# Altium integrated library Actel ACT 3.IntLib: 322 symbols (part 17 of 21)
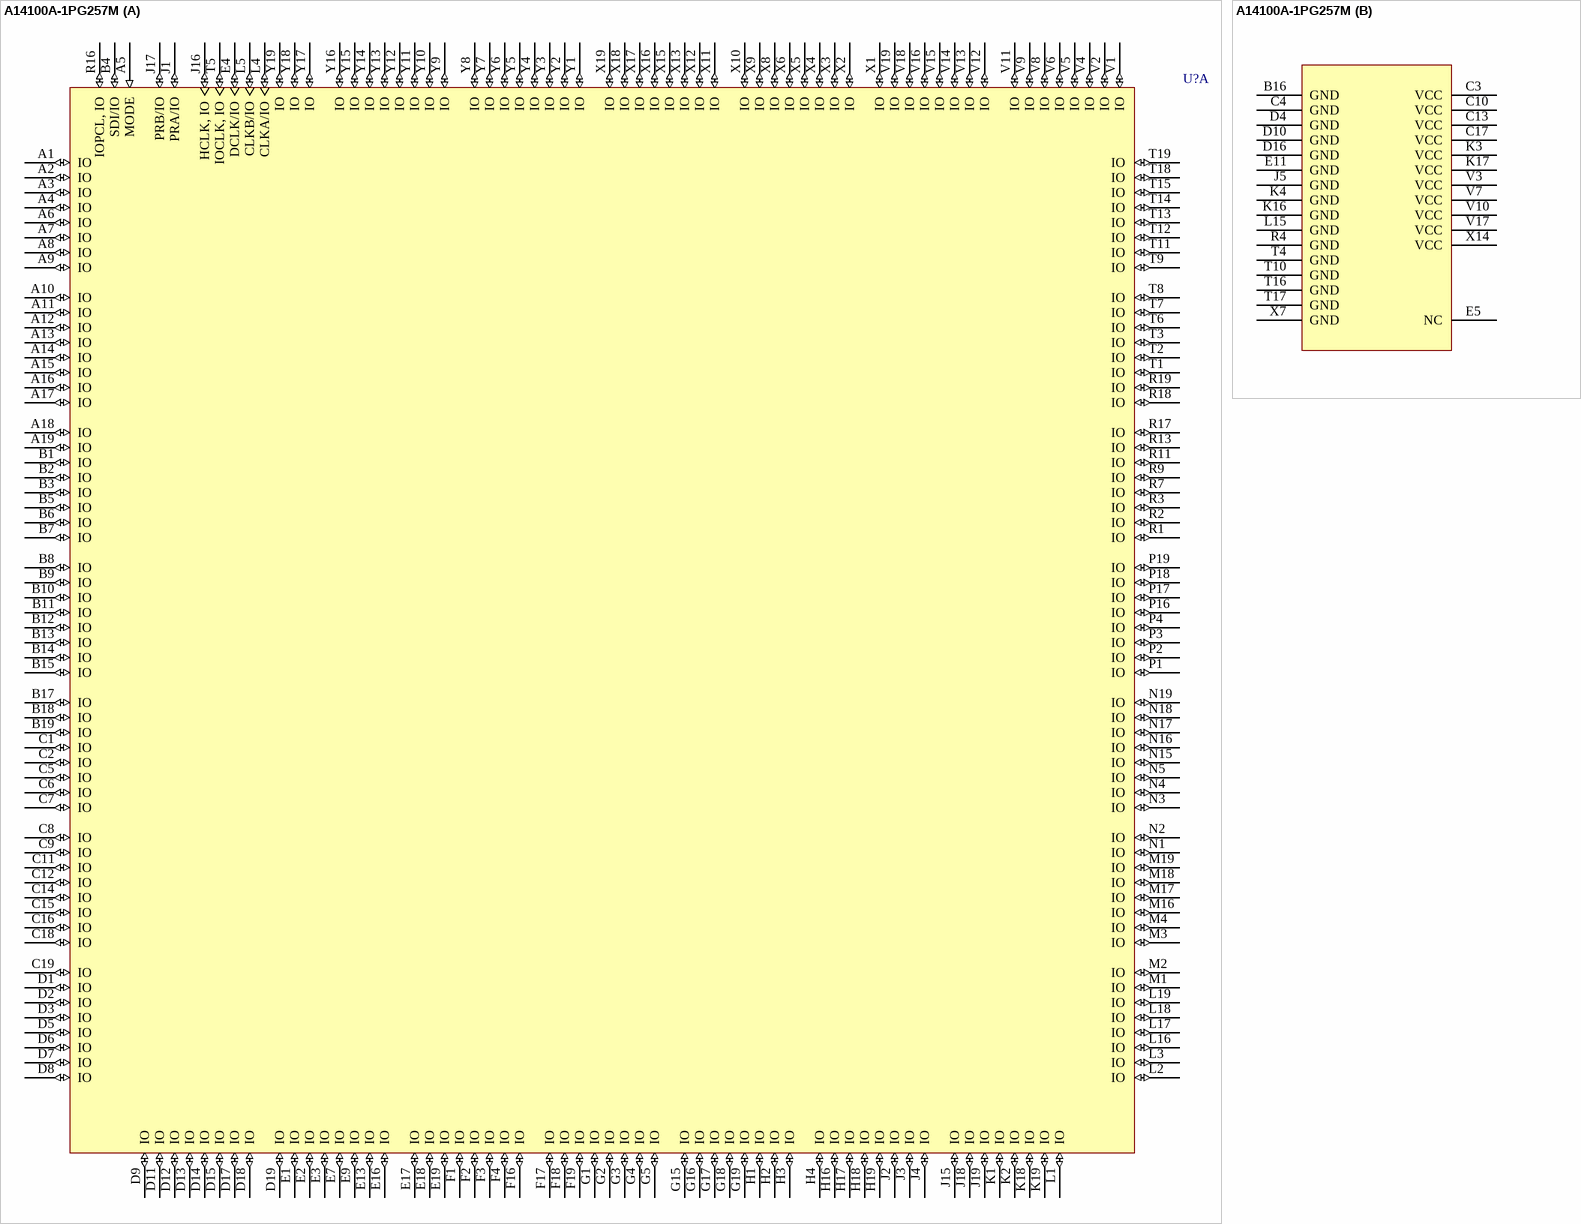
[diagram p232: symbol A14100A-1PG257M]

## A14100A-1PG257M
designator U?
ACT 3 Series 5V FPGA, 228 User I/Os, 257 pin CPGA, Speed Grade 1, Military Grade; Published: 24-Nov-2000; LatestRevisionDate: 04-Mar-2005; LatestRevisionNote: Stylized 3D Model Added.; DatasheetVersion: Sep-1997; PackageVersion: ver11.2, Nov-2009; PackageReference: PG257; Publisher: Altium Limited; PackageDescription: 257-Pin Ceramic Pin Grid Array (PG257); ComponentLink1Description: ACT3 Datasheet; ComponentLink1URL: http://www.actel.com/documents/ACT3_DS.pdf; ComponentLink2Description: Package Mechanical Drawings; ComponentLink2URL: http://www.actel.com/documents/PckgMechDrwngs.pdf; ComponentLink3Description: Legacy FPGA Documents; ComponentLink3URL: http://www.actel.com/techdocs/ds/legacy.aspx
footprint PG257 (PGA, 257-Leads, Body 50x50mm, Pitch 2.54mm)
part A pins: A1 IO (io), A2 IO (io), A3 IO (io), A4 IO (io), A5 MODE (in), A6 IO (io), A7 IO (io), A8 IO (io), A9 IO (io), A10 IO (io), A11 IO (io), A12 IO (io), A13 IO (io), A14 IO (io), A15 IO (io), A16 IO (io), A17 IO (io), A18 IO (io), A19 IO (io), B1 IO (io), B2 IO (io), B3 IO (io), B4 SDI/IO (io), B5 IO (io), B6 IO (io), B7 IO (io), B8 IO (io), B9 IO (io), B10 IO (io), B11 IO (io), B12 IO (io), B13 IO (io), B14 IO (io), B15 IO (io), B17 IO (io), B18 IO (io), B19 IO (io), C1 IO (io), C2 IO (io), C5 IO (io), C6 IO (io), C7 IO (io), C8 IO (io), C9 IO (io), C11 IO (io), C12 IO (io), C14 IO (io), C15 IO (io), C16 IO (io), C18 IO (io), C19 IO (io), D1 IO (io), D2 IO (io), D3 IO (io), D5 IO (io), D6 IO (io), D7 IO (io), D8 IO (io), D9 IO (io), D11 IO (io), D12 IO (io), D13 IO (io), D14 IO (io), D15 IO (io), D17 IO (io), D18 IO (io), D19 IO (io), E1 IO (io), E2 IO (io), E3 IO (io), E4 DCLK/IO (io), E7 IO (io), E9 IO (io), E13 IO (io), E16 IO (io), E17 IO (io), E18 IO (io), E19 IO (io), F1 IO (io), F2 IO (io), F3 IO (io), F4 IO (io), F16 IO (io), F17 IO (io), F18 IO (io), F19 IO (io), G1 IO (io), G2 IO (io), G3 IO (io), G4 IO (io), G5 IO (io), G15 IO (io), G16 IO (io), G17 IO (io), G18 IO (io), G19 IO (io), H1 IO (io), H2 IO (io), H3 IO (io), H4 IO (io), H16 IO (io), H17 IO (io), H18 IO (io), H19 IO (io), J1 PRA/IO (io), J2 IO (io), J3 IO (io), J4 IO (io), J15 IO (io), J16 HCLK, IO (io), J17 PRB/IO (io), J18 IO (io), J19 IO (io), K1 IO (io), K2 IO (io), K18 IO (io), K19 IO (io), L1 IO (io), L2 IO (io), L3 IO (io), L4 CLKA/IO (io), L5 CLKB/IO (io), L16 IO (io), L17 IO (io), L18 IO (io), L19 IO (io), M1 IO (io), M2 IO (io), M3 IO (io), M4 IO (io), M16 IO (io), M17 IO (io), M18 IO (io), M19 IO (io), N1 IO (io), N2 IO (io), N3 IO (io), N4 IO (io), N5 IO (io), N15 IO (io), N16 IO (io), N17 IO (io), N18 IO (io), N19 IO (io), P1 IO (io), P2 IO (io), P3 IO (io), P4 IO (io), P16 IO (io), P17 IO (io), P18 IO (io), P19 IO (io), R1 IO (io), R2 IO (io), R3 IO (io), R7 IO (io), R9 IO (io), R11 IO (io), R13 IO (io), R16 IOPCL, IO (io), R17 IO (io), R18 IO (io), R19 IO (io), T1 IO (io), T2 IO (io), T3 IO (io), T5 IOCLK, IO (io), T6 IO (io), T7 IO (io), T8 IO (io), T9 IO (io), T11 IO (io), T12 IO (io), T13 IO (io), T14 IO (io), T15 IO (io), T18 IO (io), T19 IO (io), V1 IO (io), V2 IO (io), V4 IO (io), V5 IO (io), V6 IO (io), V8 IO (io), V9 IO (io), V11 IO (io), V12 IO (io), V13 IO (io), V14 IO (io), V15 IO (io), V16 IO (io), V18 IO (io), V19 IO (io), X1 IO (io), X2 IO (io), X3 IO (io), X4 IO (io), X5 IO (io), X6 IO (io), X8 IO (io), X9 IO (io), X10 IO (io), X11 IO (io), X12 IO (io), X13 IO (io), X15 IO (io), X16 IO (io), X17 IO (io), X18 IO (io), X19 IO (io), Y1 IO (io), Y2 IO (io), Y3 IO (io), Y4 IO (io), Y5 IO (io), Y6 IO (io), Y7 IO (io), Y8 IO (io), Y9 IO (io), Y10 IO (io), Y11 IO (io), Y12 IO (io), Y13 IO (io), Y14 IO (io), Y15 IO (io), Y16 IO (io), Y17 IO (io), Y18 IO (io), Y19 IO (io)
part B pins: B16 GND (power), C3 VCC (power), C4 GND (power), C10 VCC (power), C13 VCC (power), C17 VCC (power), D4 GND (power), D10 GND (power), D16 GND (power), E5 NC, E11 GND (power), J5 GND (power), K3 VCC (power), K4 GND (power), K16 GND (power), K17 VCC (power), L15 GND (power), R4 GND (power), T4 GND (power), T10 GND (power), T16 GND (power), T17 GND (power), V3 VCC (power), V7 VCC (power), V10 VCC (power), V17 VCC (power), X7 GND (power), X14 VCC (power)

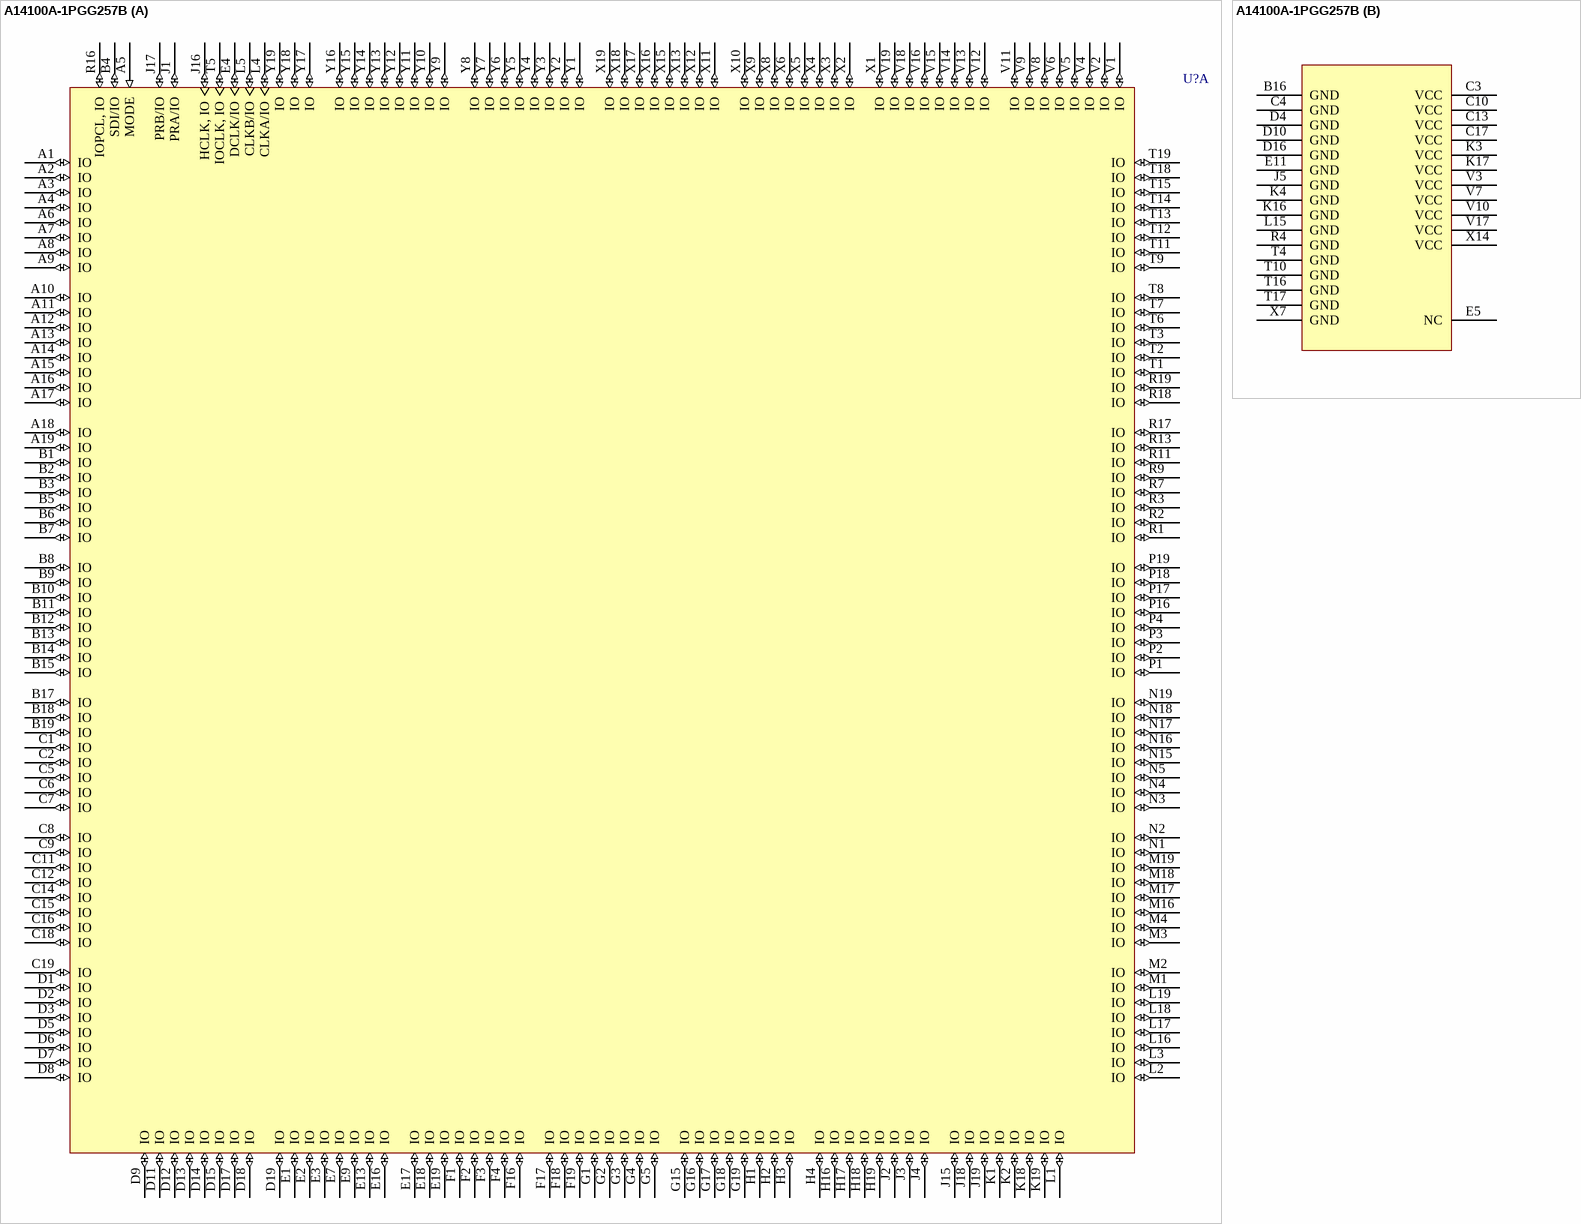
[diagram p160: symbol A14100A-1PGG257B]

## A14100A-1PGG257B
designator U?
ACT 3 Series 5V FPGA, 228 User I/Os, 257 pin CPGA, Speed Grade 1, MIL-STD-883, Pb-Free; Published: 11-Dec-2009; DatasheetVersion: Sep-1997; PackageVersion: ver11.2, Nov-2009; PackageReference: PG257; Publisher: Altium Limited; PackageDescription: 257-Pin Ceramic Pin Grid Array (PG257); ComponentLink1Description: ACT3 Datasheet; ComponentLink1URL: http://www.actel.com/documents/ACT3_DS.pdf; ComponentLink2Description: Package Mechanical Drawings; ComponentLink2URL: http://www.actel.com/documents/PckgMechDrwngs.pdf; ComponentLink3Description: Legacy FPGA Documents; ComponentLink3URL: http://www.actel.com/techdocs/ds/legacy.aspx
footprint PG257 (PGA, 257-Leads, Body 50x50mm, Pitch 2.54mm)
part A pins: A1 IO (io), A2 IO (io), A3 IO (io), A4 IO (io), A5 MODE (in), A6 IO (io), A7 IO (io), A8 IO (io), A9 IO (io), A10 IO (io), A11 IO (io), A12 IO (io), A13 IO (io), A14 IO (io), A15 IO (io), A16 IO (io), A17 IO (io), A18 IO (io), A19 IO (io), B1 IO (io), B2 IO (io), B3 IO (io), B4 SDI/IO (io), B5 IO (io), B6 IO (io), B7 IO (io), B8 IO (io), B9 IO (io), B10 IO (io), B11 IO (io), B12 IO (io), B13 IO (io), B14 IO (io), B15 IO (io), B17 IO (io), B18 IO (io), B19 IO (io), C1 IO (io), C2 IO (io), C5 IO (io), C6 IO (io), C7 IO (io), C8 IO (io), C9 IO (io), C11 IO (io), C12 IO (io), C14 IO (io), C15 IO (io), C16 IO (io), C18 IO (io), C19 IO (io), D1 IO (io), D2 IO (io), D3 IO (io), D5 IO (io), D6 IO (io), D7 IO (io), D8 IO (io), D9 IO (io), D11 IO (io), D12 IO (io), D13 IO (io), D14 IO (io), D15 IO (io), D17 IO (io), D18 IO (io), D19 IO (io), E1 IO (io), E2 IO (io), E3 IO (io), E4 DCLK/IO (io), E7 IO (io), E9 IO (io), E13 IO (io), E16 IO (io), E17 IO (io), E18 IO (io), E19 IO (io), F1 IO (io), F2 IO (io), F3 IO (io), F4 IO (io), F16 IO (io), F17 IO (io), F18 IO (io), F19 IO (io), G1 IO (io), G2 IO (io), G3 IO (io), G4 IO (io), G5 IO (io), G15 IO (io), G16 IO (io), G17 IO (io), G18 IO (io), G19 IO (io), H1 IO (io), H2 IO (io), H3 IO (io), H4 IO (io), H16 IO (io), H17 IO (io), H18 IO (io), H19 IO (io), J1 PRA/IO (io), J2 IO (io), J3 IO (io), J4 IO (io), J15 IO (io), J16 HCLK, IO (io), J17 PRB/IO (io), J18 IO (io), J19 IO (io), K1 IO (io), K2 IO (io), K18 IO (io), K19 IO (io), L1 IO (io), L2 IO (io), L3 IO (io), L4 CLKA/IO (io), L5 CLKB/IO (io), L16 IO (io), L17 IO (io), L18 IO (io), L19 IO (io), M1 IO (io), M2 IO (io), M3 IO (io), M4 IO (io), M16 IO (io), M17 IO (io), M18 IO (io), M19 IO (io), N1 IO (io), N2 IO (io), N3 IO (io), N4 IO (io), N5 IO (io), N15 IO (io), N16 IO (io), N17 IO (io), N18 IO (io), N19 IO (io), P1 IO (io), P2 IO (io), P3 IO (io), P4 IO (io), P16 IO (io), P17 IO (io), P18 IO (io), P19 IO (io), R1 IO (io), R2 IO (io), R3 IO (io), R7 IO (io), R9 IO (io), R11 IO (io), R13 IO (io), R16 IOPCL, IO (io), R17 IO (io), R18 IO (io), R19 IO (io), T1 IO (io), T2 IO (io), T3 IO (io), T5 IOCLK, IO (io), T6 IO (io), T7 IO (io), T8 IO (io), T9 IO (io), T11 IO (io), T12 IO (io), T13 IO (io), T14 IO (io), T15 IO (io), T18 IO (io), T19 IO (io), V1 IO (io), V2 IO (io), V4 IO (io), V5 IO (io), V6 IO (io), V8 IO (io), V9 IO (io), V11 IO (io), V12 IO (io), V13 IO (io), V14 IO (io), V15 IO (io), V16 IO (io), V18 IO (io), V19 IO (io), X1 IO (io), X2 IO (io), X3 IO (io), X4 IO (io), X5 IO (io), X6 IO (io), X8 IO (io), X9 IO (io), X10 IO (io), X11 IO (io), X12 IO (io), X13 IO (io), X15 IO (io), X16 IO (io), X17 IO (io), X18 IO (io), X19 IO (io), Y1 IO (io), Y2 IO (io), Y3 IO (io), Y4 IO (io), Y5 IO (io), Y6 IO (io), Y7 IO (io), Y8 IO (io), Y9 IO (io), Y10 IO (io), Y11 IO (io), Y12 IO (io), Y13 IO (io), Y14 IO (io), Y15 IO (io), Y16 IO (io), Y17 IO (io), Y18 IO (io), Y19 IO (io)
part B pins: B16 GND (power), C3 VCC (power), C4 GND (power), C10 VCC (power), C13 VCC (power), C17 VCC (power), D4 GND (power), D10 GND (power), D16 GND (power), E5 NC, E11 GND (power), J5 GND (power), K3 VCC (power), K4 GND (power), K16 GND (power), K17 VCC (power), L15 GND (power), R4 GND (power), T4 GND (power), T10 GND (power), T16 GND (power), T17 GND (power), V3 VCC (power), V7 VCC (power), V10 VCC (power), V17 VCC (power), X7 GND (power), X14 VCC (power)

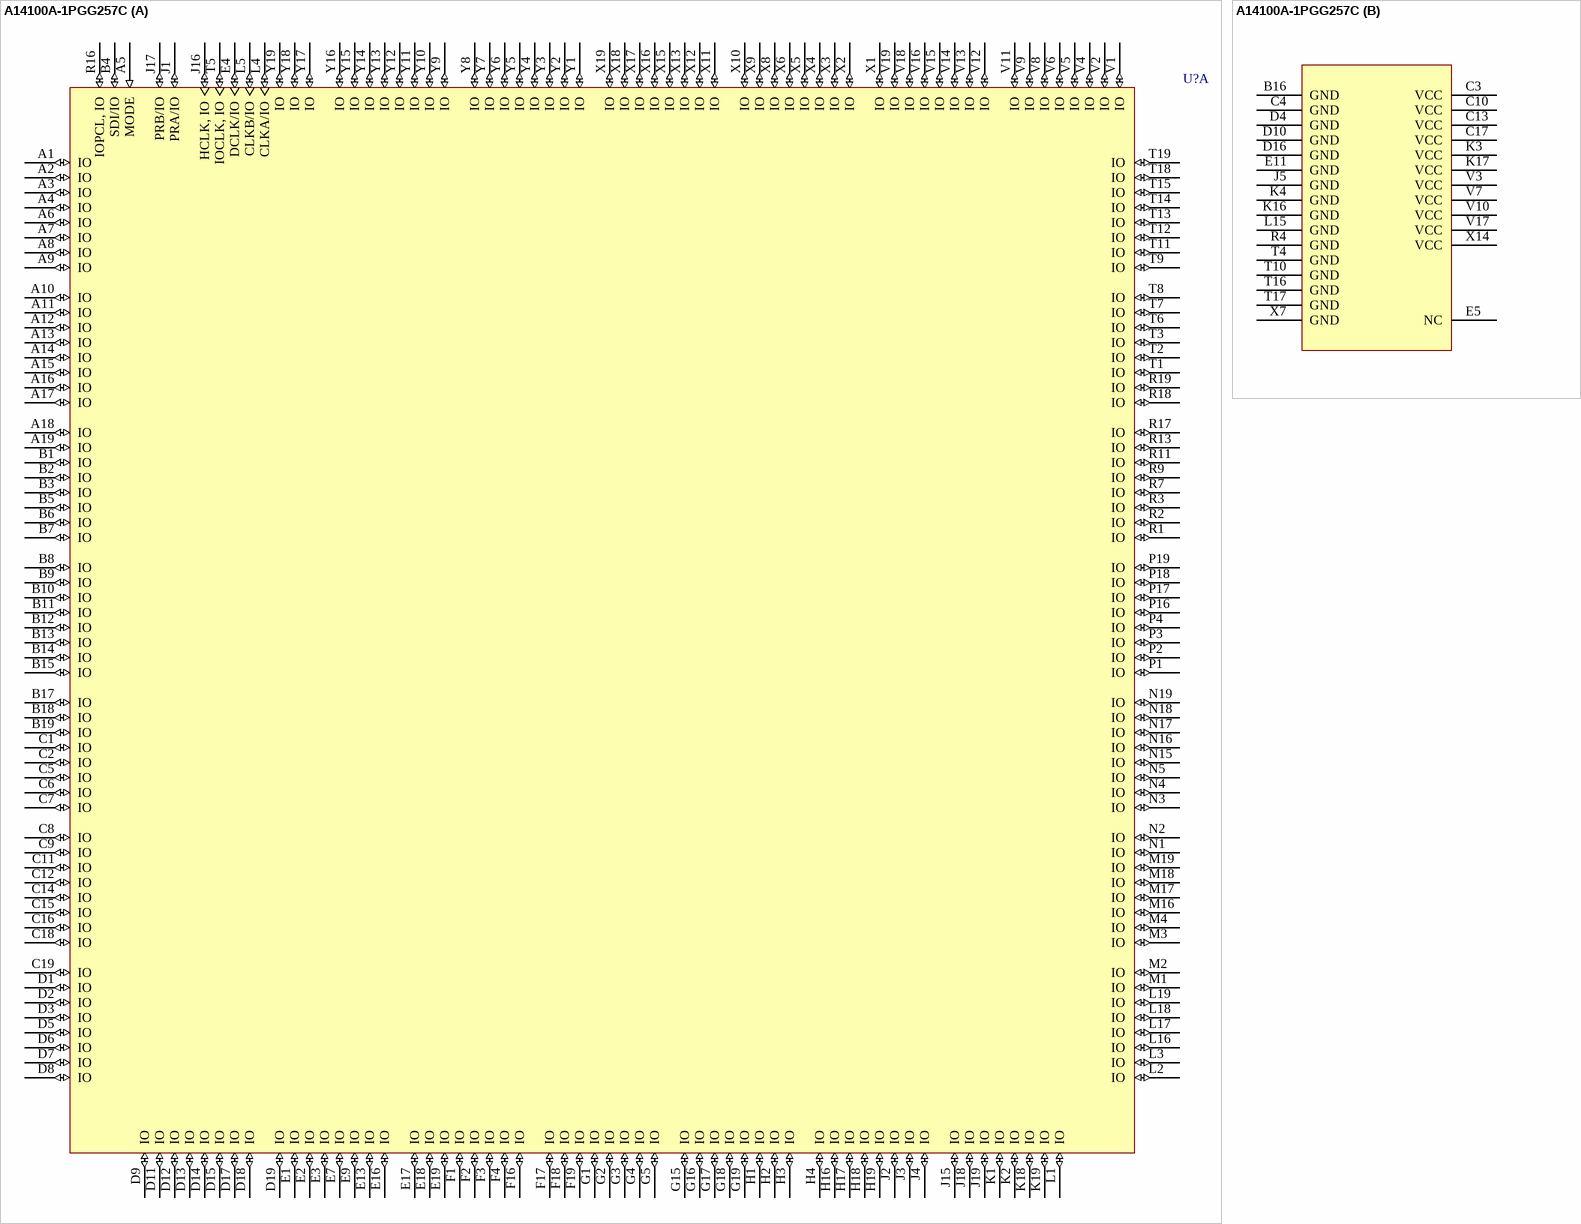
[diagram p161: symbol A14100A-1PGG257C]

## A14100A-1PGG257C
designator U?
ACT 3 Series 5V FPGA, 228 User I/Os, 257 pin CPGA, Speed Grade 1, Commercial Grade, Pb-Free; Published: 11-Dec-2009; DatasheetVersion: Sep-1997; PackageVersion: ver11.2, Nov-2009; PackageReference: PG257; Publisher: Altium Limited; PackageDescription: 257-Pin Ceramic Pin Grid Array (PG257); ComponentLink1Description: ACT3 Datasheet; ComponentLink1URL: http://www.actel.com/documents/ACT3_DS.pdf; ComponentLink2Description: Package Mechanical Drawings; ComponentLink2URL: http://www.actel.com/documents/PckgMechDrwngs.pdf; ComponentLink3Description: Legacy FPGA Documents; ComponentLink3URL: http://www.actel.com/techdocs/ds/legacy.aspx
footprint PG257 (PGA, 257-Leads, Body 50x50mm, Pitch 2.54mm)
part A pins: A1 IO (io), A2 IO (io), A3 IO (io), A4 IO (io), A5 MODE (in), A6 IO (io), A7 IO (io), A8 IO (io), A9 IO (io), A10 IO (io), A11 IO (io), A12 IO (io), A13 IO (io), A14 IO (io), A15 IO (io), A16 IO (io), A17 IO (io), A18 IO (io), A19 IO (io), B1 IO (io), B2 IO (io), B3 IO (io), B4 SDI/IO (io), B5 IO (io), B6 IO (io), B7 IO (io), B8 IO (io), B9 IO (io), B10 IO (io), B11 IO (io), B12 IO (io), B13 IO (io), B14 IO (io), B15 IO (io), B17 IO (io), B18 IO (io), B19 IO (io), C1 IO (io), C2 IO (io), C5 IO (io), C6 IO (io), C7 IO (io), C8 IO (io), C9 IO (io), C11 IO (io), C12 IO (io), C14 IO (io), C15 IO (io), C16 IO (io), C18 IO (io), C19 IO (io), D1 IO (io), D2 IO (io), D3 IO (io), D5 IO (io), D6 IO (io), D7 IO (io), D8 IO (io), D9 IO (io), D11 IO (io), D12 IO (io), D13 IO (io), D14 IO (io), D15 IO (io), D17 IO (io), D18 IO (io), D19 IO (io), E1 IO (io), E2 IO (io), E3 IO (io), E4 DCLK/IO (io), E7 IO (io), E9 IO (io), E13 IO (io), E16 IO (io), E17 IO (io), E18 IO (io), E19 IO (io), F1 IO (io), F2 IO (io), F3 IO (io), F4 IO (io), F16 IO (io), F17 IO (io), F18 IO (io), F19 IO (io), G1 IO (io), G2 IO (io), G3 IO (io), G4 IO (io), G5 IO (io), G15 IO (io), G16 IO (io), G17 IO (io), G18 IO (io), G19 IO (io), H1 IO (io), H2 IO (io), H3 IO (io), H4 IO (io), H16 IO (io), H17 IO (io), H18 IO (io), H19 IO (io), J1 PRA/IO (io), J2 IO (io), J3 IO (io), J4 IO (io), J15 IO (io), J16 HCLK, IO (io), J17 PRB/IO (io), J18 IO (io), J19 IO (io), K1 IO (io), K2 IO (io), K18 IO (io), K19 IO (io), L1 IO (io), L2 IO (io), L3 IO (io), L4 CLKA/IO (io), L5 CLKB/IO (io), L16 IO (io), L17 IO (io), L18 IO (io), L19 IO (io), M1 IO (io), M2 IO (io), M3 IO (io), M4 IO (io), M16 IO (io), M17 IO (io), M18 IO (io), M19 IO (io), N1 IO (io), N2 IO (io), N3 IO (io), N4 IO (io), N5 IO (io), N15 IO (io), N16 IO (io), N17 IO (io), N18 IO (io), N19 IO (io), P1 IO (io), P2 IO (io), P3 IO (io), P4 IO (io), P16 IO (io), P17 IO (io), P18 IO (io), P19 IO (io), R1 IO (io), R2 IO (io), R3 IO (io), R7 IO (io), R9 IO (io), R11 IO (io), R13 IO (io), R16 IOPCL, IO (io), R17 IO (io), R18 IO (io), R19 IO (io), T1 IO (io), T2 IO (io), T3 IO (io), T5 IOCLK, IO (io), T6 IO (io), T7 IO (io), T8 IO (io), T9 IO (io), T11 IO (io), T12 IO (io), T13 IO (io), T14 IO (io), T15 IO (io), T18 IO (io), T19 IO (io), V1 IO (io), V2 IO (io), V4 IO (io), V5 IO (io), V6 IO (io), V8 IO (io), V9 IO (io), V11 IO (io), V12 IO (io), V13 IO (io), V14 IO (io), V15 IO (io), V16 IO (io), V18 IO (io), V19 IO (io), X1 IO (io), X2 IO (io), X3 IO (io), X4 IO (io), X5 IO (io), X6 IO (io), X8 IO (io), X9 IO (io), X10 IO (io), X11 IO (io), X12 IO (io), X13 IO (io), X15 IO (io), X16 IO (io), X17 IO (io), X18 IO (io), X19 IO (io), Y1 IO (io), Y2 IO (io), Y3 IO (io), Y4 IO (io), Y5 IO (io), Y6 IO (io), Y7 IO (io), Y8 IO (io), Y9 IO (io), Y10 IO (io), Y11 IO (io), Y12 IO (io), Y13 IO (io), Y14 IO (io), Y15 IO (io), Y16 IO (io), Y17 IO (io), Y18 IO (io), Y19 IO (io)
part B pins: B16 GND (power), C3 VCC (power), C4 GND (power), C10 VCC (power), C13 VCC (power), C17 VCC (power), D4 GND (power), D10 GND (power), D16 GND (power), E5 NC, E11 GND (power), J5 GND (power), K3 VCC (power), K4 GND (power), K16 GND (power), K17 VCC (power), L15 GND (power), R4 GND (power), T4 GND (power), T10 GND (power), T16 GND (power), T17 GND (power), V3 VCC (power), V7 VCC (power), V10 VCC (power), V17 VCC (power), X7 GND (power), X14 VCC (power)

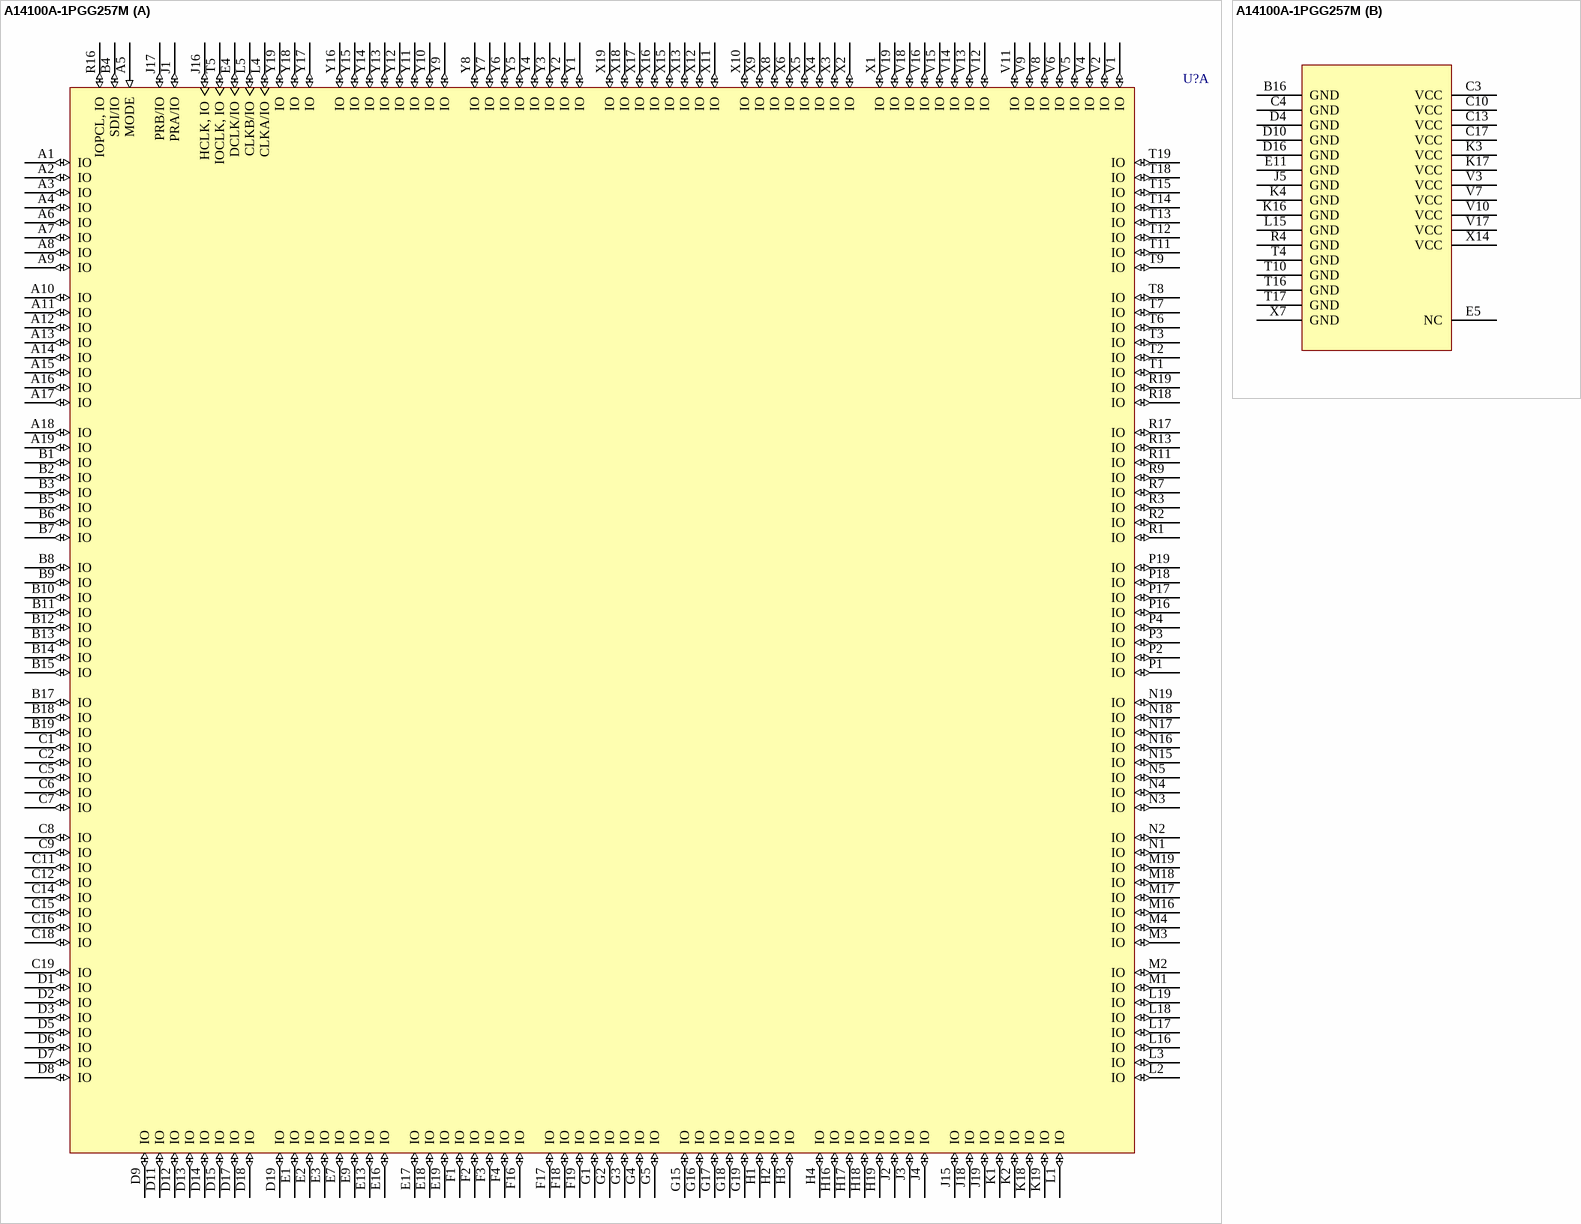
[diagram p162: symbol A14100A-1PGG257M]

## A14100A-1PGG257M
designator U?
ACT 3 Series 5V FPGA, 228 User I/Os, 257 pin CPGA, Speed Grade 1, Military Grade, Pb-Free; Published: 11-Dec-2009; DatasheetVersion: Sep-1997; PackageVersion: ver11.2, Nov-2009; PackageReference: PG257; Publisher: Altium Limited; PackageDescription: 257-Pin Ceramic Pin Grid Array (PG257); ComponentLink1Description: ACT3 Datasheet; ComponentLink1URL: http://www.actel.com/documents/ACT3_DS.pdf; ComponentLink2Description: Package Mechanical Drawings; ComponentLink2URL: http://www.actel.com/documents/PckgMechDrwngs.pdf; ComponentLink3Description: Legacy FPGA Documents; ComponentLink3URL: http://www.actel.com/techdocs/ds/legacy.aspx
footprint PG257 (PGA, 257-Leads, Body 50x50mm, Pitch 2.54mm)
part A pins: A1 IO (io), A2 IO (io), A3 IO (io), A4 IO (io), A5 MODE (in), A6 IO (io), A7 IO (io), A8 IO (io), A9 IO (io), A10 IO (io), A11 IO (io), A12 IO (io), A13 IO (io), A14 IO (io), A15 IO (io), A16 IO (io), A17 IO (io), A18 IO (io), A19 IO (io), B1 IO (io), B2 IO (io), B3 IO (io), B4 SDI/IO (io), B5 IO (io), B6 IO (io), B7 IO (io), B8 IO (io), B9 IO (io), B10 IO (io), B11 IO (io), B12 IO (io), B13 IO (io), B14 IO (io), B15 IO (io), B17 IO (io), B18 IO (io), B19 IO (io), C1 IO (io), C2 IO (io), C5 IO (io), C6 IO (io), C7 IO (io), C8 IO (io), C9 IO (io), C11 IO (io), C12 IO (io), C14 IO (io), C15 IO (io), C16 IO (io), C18 IO (io), C19 IO (io), D1 IO (io), D2 IO (io), D3 IO (io), D5 IO (io), D6 IO (io), D7 IO (io), D8 IO (io), D9 IO (io), D11 IO (io), D12 IO (io), D13 IO (io), D14 IO (io), D15 IO (io), D17 IO (io), D18 IO (io), D19 IO (io), E1 IO (io), E2 IO (io), E3 IO (io), E4 DCLK/IO (io), E7 IO (io), E9 IO (io), E13 IO (io), E16 IO (io), E17 IO (io), E18 IO (io), E19 IO (io), F1 IO (io), F2 IO (io), F3 IO (io), F4 IO (io), F16 IO (io), F17 IO (io), F18 IO (io), F19 IO (io), G1 IO (io), G2 IO (io), G3 IO (io), G4 IO (io), G5 IO (io), G15 IO (io), G16 IO (io), G17 IO (io), G18 IO (io), G19 IO (io), H1 IO (io), H2 IO (io), H3 IO (io), H4 IO (io), H16 IO (io), H17 IO (io), H18 IO (io), H19 IO (io), J1 PRA/IO (io), J2 IO (io), J3 IO (io), J4 IO (io), J15 IO (io), J16 HCLK, IO (io), J17 PRB/IO (io), J18 IO (io), J19 IO (io), K1 IO (io), K2 IO (io), K18 IO (io), K19 IO (io), L1 IO (io), L2 IO (io), L3 IO (io), L4 CLKA/IO (io), L5 CLKB/IO (io), L16 IO (io), L17 IO (io), L18 IO (io), L19 IO (io), M1 IO (io), M2 IO (io), M3 IO (io), M4 IO (io), M16 IO (io), M17 IO (io), M18 IO (io), M19 IO (io), N1 IO (io), N2 IO (io), N3 IO (io), N4 IO (io), N5 IO (io), N15 IO (io), N16 IO (io), N17 IO (io), N18 IO (io), N19 IO (io), P1 IO (io), P2 IO (io), P3 IO (io), P4 IO (io), P16 IO (io), P17 IO (io), P18 IO (io), P19 IO (io), R1 IO (io), R2 IO (io), R3 IO (io), R7 IO (io), R9 IO (io), R11 IO (io), R13 IO (io), R16 IOPCL, IO (io), R17 IO (io), R18 IO (io), R19 IO (io), T1 IO (io), T2 IO (io), T3 IO (io), T5 IOCLK, IO (io), T6 IO (io), T7 IO (io), T8 IO (io), T9 IO (io), T11 IO (io), T12 IO (io), T13 IO (io), T14 IO (io), T15 IO (io), T18 IO (io), T19 IO (io), V1 IO (io), V2 IO (io), V4 IO (io), V5 IO (io), V6 IO (io), V8 IO (io), V9 IO (io), V11 IO (io), V12 IO (io), V13 IO (io), V14 IO (io), V15 IO (io), V16 IO (io), V18 IO (io), V19 IO (io), X1 IO (io), X2 IO (io), X3 IO (io), X4 IO (io), X5 IO (io), X6 IO (io), X8 IO (io), X9 IO (io), X10 IO (io), X11 IO (io), X12 IO (io), X13 IO (io), X15 IO (io), X16 IO (io), X17 IO (io), X18 IO (io), X19 IO (io), Y1 IO (io), Y2 IO (io), Y3 IO (io), Y4 IO (io), Y5 IO (io), Y6 IO (io), Y7 IO (io), Y8 IO (io), Y9 IO (io), Y10 IO (io), Y11 IO (io), Y12 IO (io), Y13 IO (io), Y14 IO (io), Y15 IO (io), Y16 IO (io), Y17 IO (io), Y18 IO (io), Y19 IO (io)
part B pins: B16 GND (power), C3 VCC (power), C4 GND (power), C10 VCC (power), C13 VCC (power), C17 VCC (power), D4 GND (power), D10 GND (power), D16 GND (power), E5 NC, E11 GND (power), J5 GND (power), K3 VCC (power), K4 GND (power), K16 GND (power), K17 VCC (power), L15 GND (power), R4 GND (power), T4 GND (power), T10 GND (power), T16 GND (power), T17 GND (power), V3 VCC (power), V7 VCC (power), V10 VCC (power), V17 VCC (power), X7 GND (power), X14 VCC (power)

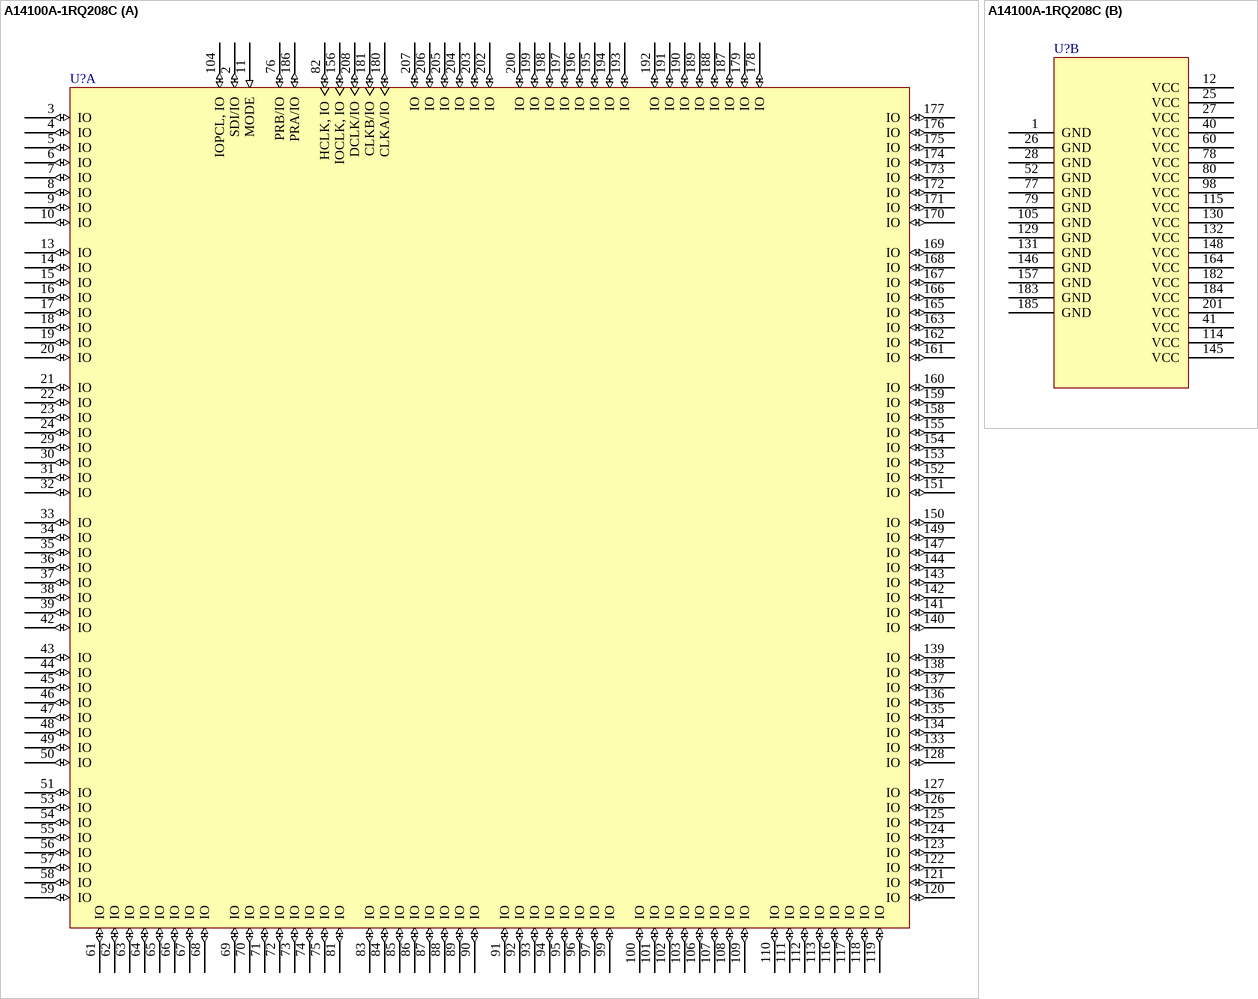
[diagram p163: symbol A14100A-1RQ208C]

## A14100A-1RQ208C
designator U?
ACT 3 Series 5V FPGA, 175 User I/Os, 208 pin RQFP, Speed Grade 1, Commercial Grade; Published: 24-Nov-2000; LatestRevisionDate: 13-Apr-2006; LatestRevisionNote: IPC-7351 Footprint Added.; DatasheetVersion: Sep-1997; PackageVersion: ver11.2, Nov-2009; PackageReference: RQ208; Publisher: Altium Limited; PackageDescription: 208-Pin Plastic Quad Flat Pack (RQ208); Code_JEDEC: MS-029-FA-1; ComponentLink1Description: ACT3 Datasheet; ComponentLink1URL: http://www.actel.com/documents/ACT3_DS.pdf; ComponentLink2Description: Package Mechanical Drawings; ComponentLink2URL: http://www.actel.com/documents/PckgMechDrwngs.pdf; ComponentLink3Description: Legacy FPGA Documents; ComponentLink3URL: http://www.actel.com/techdocs/ds/legacy.aspx
footprint RQ208_N (Shrink QFP, 208-Leads, Body 28x28mm, Pitch 0.5mm, IPC Medium Density)
footprint RQ208_L (Shrink QFP, 208-Leads, Body 28x28mm, Pitch 0.5mm, IPC High Density)
footprint RQ208_M (Shrink QFP, 208-Leads, Body 28x28mm, Pitch 0.5mm, IPC Low Density)
part A pins: 2 SDI/IO (io), 3 IO (io), 4 IO (io), 5 IO (io), 6 IO (io), 7 IO (io), 8 IO (io), 9 IO (io), 10 IO (io), 11 MODE (in), 13 IO (io), 14 IO (io), 15 IO (io), 16 IO (io), 17 IO (io), 18 IO (io), 19 IO (io), 20 IO (io), 21 IO (io), 22 IO (io), 23 IO (io), 24 IO (io), 29 IO (io), 30 IO (io), 31 IO (io), 32 IO (io), 33 IO (io), 34 IO (io), 35 IO (io), 36 IO (io), 37 IO (io), 38 IO (io), 39 IO (io), 42 IO (io), 43 IO (io), 44 IO (io), 45 IO (io), 46 IO (io), 47 IO (io), 48 IO (io), 49 IO (io), 50 IO (io), 51 IO (io), 53 IO (io), 54 IO (io), 55 IO (io), 56 IO (io), 57 IO (io), 58 IO (io), 59 IO (io), 61 IO (io), 62 IO (io), 63 IO (io), 64 IO (io), 65 IO (io), 66 IO (io), 67 IO (io), 68 IO (io), 69 IO (io), 70 IO (io), 71 IO (io), 72 IO (io), 73 IO (io), 74 IO (io), 75 IO (io), 76 PRB/IO (io), 81 IO (io), 82 HCLK, IO (io), 83 IO (io), 84 IO (io), 85 IO (io), 86 IO (io), 87 IO (io), 88 IO (io), 89 IO (io), 90 IO (io), 91 IO (io), 92 IO (io), 93 IO (io), 94 IO (io), 95 IO (io), 96 IO (io), 97 IO (io), 99 IO (io), 100 IO (io), 101 IO (io), 102 IO (io), 103 IO (io), 104 IOPCL, IO (io), 106 IO (io), 107 IO (io), 108 IO (io), 109 IO (io), 110 IO (io), 111 IO (io), 112 IO (io), 113 IO (io), 116 IO (io), 117 IO (io), 118 IO (io), 119 IO (io), 120 IO (io), 121 IO (io), 122 IO (io), 123 IO (io), 124 IO (io), 125 IO (io), 126 IO (io), 127 IO (io), 128 IO (io), 133 IO (io), 134 IO (io), 135 IO (io), 136 IO (io), 137 IO (io), 138 IO (io), 139 IO (io), 140 IO (io), 141 IO (io), 142 IO (io), 143 IO (io), 144 IO (io), 147 IO (io), 149 IO (io), 150 IO (io), 151 IO (io), 152 IO (io), 153 IO (io), 154 IO (io), 155 IO (io), 156 IOCLK, IO (io), 158 IO (io), 159 IO (io), 160 IO (io), 161 IO (io), 162 IO (io), 163 IO (io), 165 IO (io), 166 IO (io), 167 IO (io), 168 IO (io), 169 IO (io), 170 IO (io), 171 IO (io), 172 IO (io), 173 IO (io), 174 IO (io), 175 IO (io), 176 IO (io), 177 IO (io), 178 IO (io), 179 IO (io), 180 CLKA/IO (io), 181 CLKB/IO (io), 186 PRA/IO (io), 187 IO (io), 188 IO (io), 189 IO (io), 190 IO (io), 191 IO (io), 192 IO (io), 193 IO (io), 194 IO (io), 195 IO (io), 196 IO (io), 197 IO (io), 198 IO (io), 199 IO (io), 200 IO (io), 202 IO (io), 203 IO (io), 204 IO (io), 205 IO (io), 206 IO (io), 207 IO (io), 208 DCLK/IO (io)
part B pins: 1 GND (power), 12 VCC (power), 25 VCC (power), 26 GND (power), 27 VCC (power), 28 GND (power), 40 VCC (power), 41 VCC (power), 52 GND (power), 60 VCC (power), 77 GND (power), 78 VCC (power), 79 GND (power), 80 VCC (power), 98 VCC (power), 105 GND (power), 114 VCC (power), 115 VCC (power), 129 GND (power), 130 VCC (power), 131 GND (power), 132 VCC (power), 145 VCC (power), 146 GND (power), 148 VCC (power), 157 GND (power), 164 VCC (power), 182 VCC (power), 183 GND (power), 184 VCC (power), 185 GND (power), 201 VCC (power)

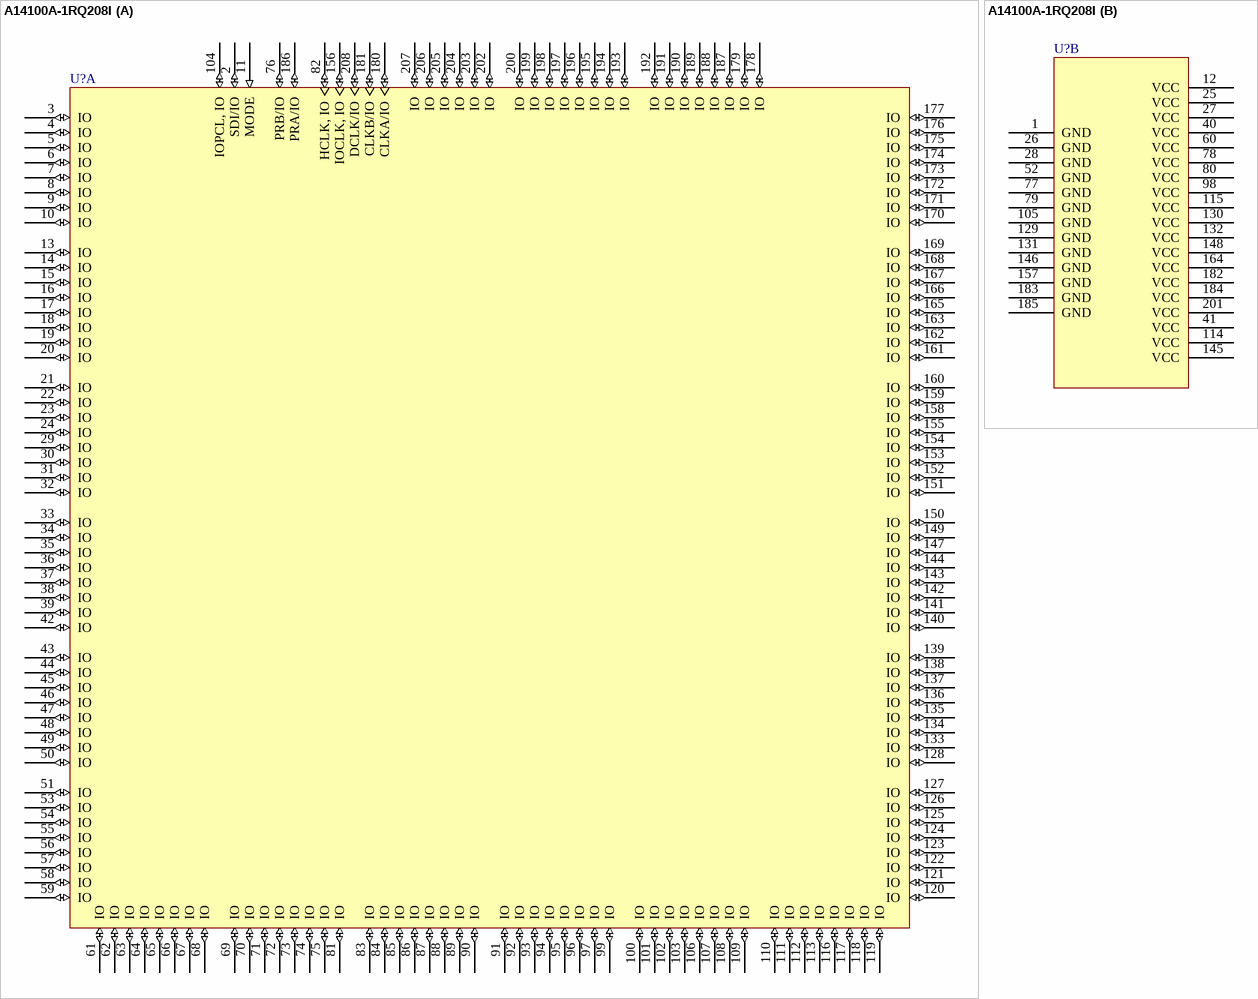
[diagram p164: symbol A14100A-1RQ208I]

## A14100A-1RQ208I
designator U?
ACT 3 Series 5V FPGA, 175 User I/Os, 208 pin RQFP, Speed Grade 1, Industrial Grade; Published: 24-Nov-2000; LatestRevisionDate: 13-Apr-2006; LatestRevisionNote: IPC-7351 Footprint Added.; DatasheetVersion: Sep-1997; PackageVersion: ver11.2, Nov-2009; PackageReference: RQ208; Publisher: Altium Limited; PackageDescription: 208-Pin Plastic Quad Flat Pack (RQ208); Code_JEDEC: MS-029-FA-1; ComponentLink1Description: ACT3 Datasheet; ComponentLink1URL: http://www.actel.com/documents/ACT3_DS.pdf; ComponentLink2Description: Package Mechanical Drawings; ComponentLink2URL: http://www.actel.com/documents/PckgMechDrwngs.pdf; ComponentLink3Description: Legacy FPGA Documents; ComponentLink3URL: http://www.actel.com/techdocs/ds/legacy.aspx
footprint RQ208_N (Shrink QFP, 208-Leads, Body 28x28mm, Pitch 0.5mm, IPC Medium Density)
footprint RQ208_L (Shrink QFP, 208-Leads, Body 28x28mm, Pitch 0.5mm, IPC High Density)
footprint RQ208_M (Shrink QFP, 208-Leads, Body 28x28mm, Pitch 0.5mm, IPC Low Density)
part A pins: 2 SDI/IO (io), 3 IO (io), 4 IO (io), 5 IO (io), 6 IO (io), 7 IO (io), 8 IO (io), 9 IO (io), 10 IO (io), 11 MODE (in), 13 IO (io), 14 IO (io), 15 IO (io), 16 IO (io), 17 IO (io), 18 IO (io), 19 IO (io), 20 IO (io), 21 IO (io), 22 IO (io), 23 IO (io), 24 IO (io), 29 IO (io), 30 IO (io), 31 IO (io), 32 IO (io), 33 IO (io), 34 IO (io), 35 IO (io), 36 IO (io), 37 IO (io), 38 IO (io), 39 IO (io), 42 IO (io), 43 IO (io), 44 IO (io), 45 IO (io), 46 IO (io), 47 IO (io), 48 IO (io), 49 IO (io), 50 IO (io), 51 IO (io), 53 IO (io), 54 IO (io), 55 IO (io), 56 IO (io), 57 IO (io), 58 IO (io), 59 IO (io), 61 IO (io), 62 IO (io), 63 IO (io), 64 IO (io), 65 IO (io), 66 IO (io), 67 IO (io), 68 IO (io), 69 IO (io), 70 IO (io), 71 IO (io), 72 IO (io), 73 IO (io), 74 IO (io), 75 IO (io), 76 PRB/IO (io), 81 IO (io), 82 HCLK, IO (io), 83 IO (io), 84 IO (io), 85 IO (io), 86 IO (io), 87 IO (io), 88 IO (io), 89 IO (io), 90 IO (io), 91 IO (io), 92 IO (io), 93 IO (io), 94 IO (io), 95 IO (io), 96 IO (io), 97 IO (io), 99 IO (io), 100 IO (io), 101 IO (io), 102 IO (io), 103 IO (io), 104 IOPCL, IO (io), 106 IO (io), 107 IO (io), 108 IO (io), 109 IO (io), 110 IO (io), 111 IO (io), 112 IO (io), 113 IO (io), 116 IO (io), 117 IO (io), 118 IO (io), 119 IO (io), 120 IO (io), 121 IO (io), 122 IO (io), 123 IO (io), 124 IO (io), 125 IO (io), 126 IO (io), 127 IO (io), 128 IO (io), 133 IO (io), 134 IO (io), 135 IO (io), 136 IO (io), 137 IO (io), 138 IO (io), 139 IO (io), 140 IO (io), 141 IO (io), 142 IO (io), 143 IO (io), 144 IO (io), 147 IO (io), 149 IO (io), 150 IO (io), 151 IO (io), 152 IO (io), 153 IO (io), 154 IO (io), 155 IO (io), 156 IOCLK, IO (io), 158 IO (io), 159 IO (io), 160 IO (io), 161 IO (io), 162 IO (io), 163 IO (io), 165 IO (io), 166 IO (io), 167 IO (io), 168 IO (io), 169 IO (io), 170 IO (io), 171 IO (io), 172 IO (io), 173 IO (io), 174 IO (io), 175 IO (io), 176 IO (io), 177 IO (io), 178 IO (io), 179 IO (io), 180 CLKA/IO (io), 181 CLKB/IO (io), 186 PRA/IO (io), 187 IO (io), 188 IO (io), 189 IO (io), 190 IO (io), 191 IO (io), 192 IO (io), 193 IO (io), 194 IO (io), 195 IO (io), 196 IO (io), 197 IO (io), 198 IO (io), 199 IO (io), 200 IO (io), 202 IO (io), 203 IO (io), 204 IO (io), 205 IO (io), 206 IO (io), 207 IO (io), 208 DCLK/IO (io)
part B pins: 1 GND (power), 12 VCC (power), 25 VCC (power), 26 GND (power), 27 VCC (power), 28 GND (power), 40 VCC (power), 41 VCC (power), 52 GND (power), 60 VCC (power), 77 GND (power), 78 VCC (power), 79 GND (power), 80 VCC (power), 98 VCC (power), 105 GND (power), 114 VCC (power), 115 VCC (power), 129 GND (power), 130 VCC (power), 131 GND (power), 132 VCC (power), 145 VCC (power), 146 GND (power), 148 VCC (power), 157 GND (power), 164 VCC (power), 182 VCC (power), 183 GND (power), 184 VCC (power), 185 GND (power), 201 VCC (power)

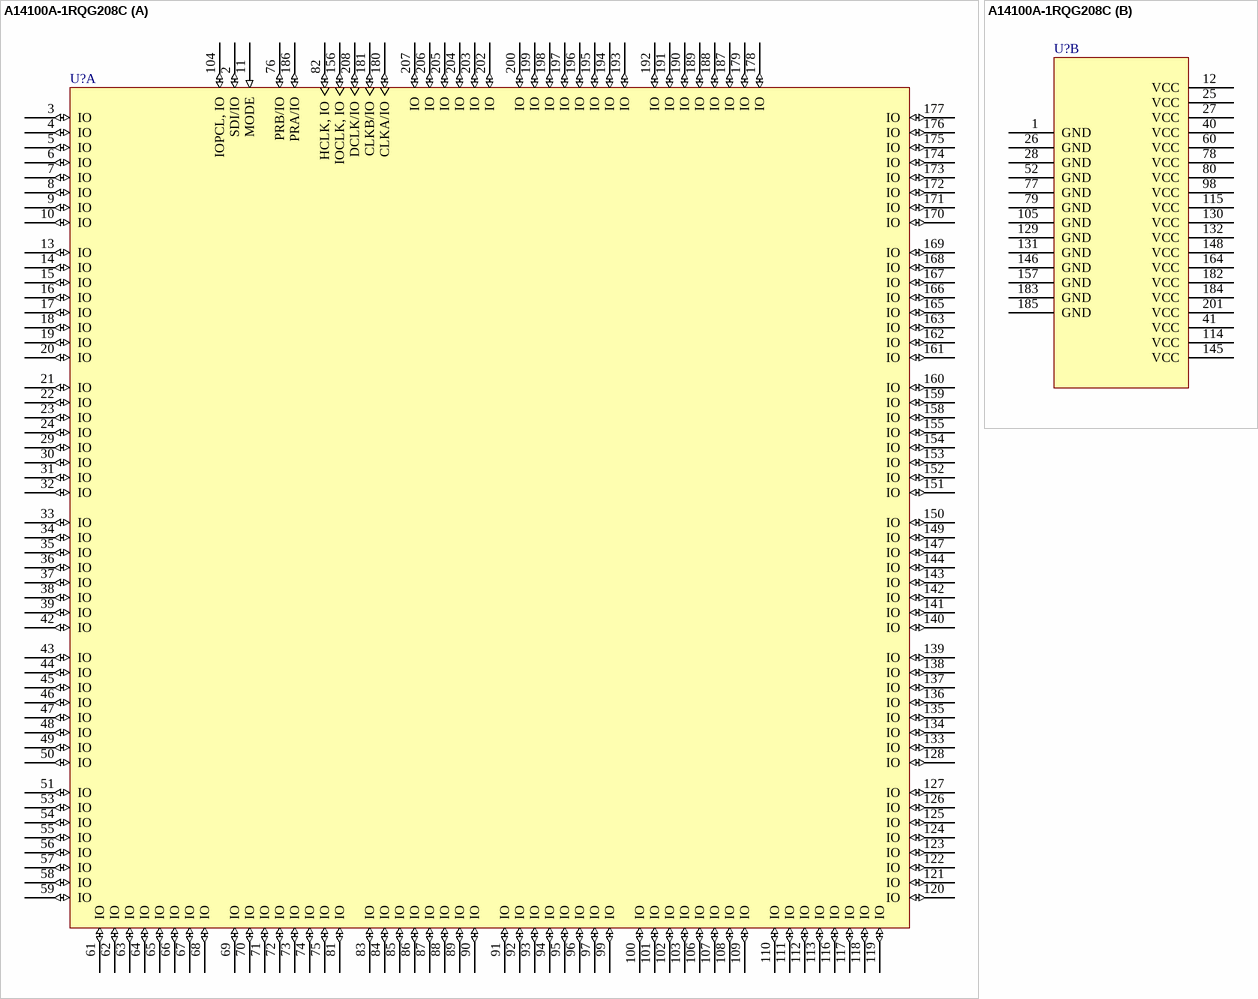
[diagram p165: symbol A14100A-1RQG208C]

## A14100A-1RQG208C
designator U?
ACT 3 Series 5V FPGA, 175 User I/Os, 208 pin RQFP, Speed Grade 1, Commercial Grade, Pb-Free; Published: 11-Dec-2009; DatasheetVersion: Sep-1997; PackageVersion: ver11.2, Nov-2009; PackageReference: RQ208; Publisher: Altium Limited; PackageDescription: 208-Pin Plastic Quad Flat Pack (RQ208); Code_JEDEC: MS-029-FA-1; ComponentLink1Description: ACT3 Datasheet; ComponentLink1URL: http://www.actel.com/documents/ACT3_DS.pdf; ComponentLink2Description: Package Mechanical Drawings; ComponentLink2URL: http://www.actel.com/documents/PckgMechDrwngs.pdf; ComponentLink3Description: Legacy FPGA Documents; ComponentLink3URL: http://www.actel.com/techdocs/ds/legacy.aspx
footprint RQ208_N (Shrink QFP, 208-Leads, Body 28x28mm, Pitch 0.5mm, IPC Medium Density)
footprint RQ208_L (Shrink QFP, 208-Leads, Body 28x28mm, Pitch 0.5mm, IPC High Density)
footprint RQ208_M (Shrink QFP, 208-Leads, Body 28x28mm, Pitch 0.5mm, IPC Low Density)
part A pins: 2 SDI/IO (io), 3 IO (io), 4 IO (io), 5 IO (io), 6 IO (io), 7 IO (io), 8 IO (io), 9 IO (io), 10 IO (io), 11 MODE (in), 13 IO (io), 14 IO (io), 15 IO (io), 16 IO (io), 17 IO (io), 18 IO (io), 19 IO (io), 20 IO (io), 21 IO (io), 22 IO (io), 23 IO (io), 24 IO (io), 29 IO (io), 30 IO (io), 31 IO (io), 32 IO (io), 33 IO (io), 34 IO (io), 35 IO (io), 36 IO (io), 37 IO (io), 38 IO (io), 39 IO (io), 42 IO (io), 43 IO (io), 44 IO (io), 45 IO (io), 46 IO (io), 47 IO (io), 48 IO (io), 49 IO (io), 50 IO (io), 51 IO (io), 53 IO (io), 54 IO (io), 55 IO (io), 56 IO (io), 57 IO (io), 58 IO (io), 59 IO (io), 61 IO (io), 62 IO (io), 63 IO (io), 64 IO (io), 65 IO (io), 66 IO (io), 67 IO (io), 68 IO (io), 69 IO (io), 70 IO (io), 71 IO (io), 72 IO (io), 73 IO (io), 74 IO (io), 75 IO (io), 76 PRB/IO (io), 81 IO (io), 82 HCLK, IO (io), 83 IO (io), 84 IO (io), 85 IO (io), 86 IO (io), 87 IO (io), 88 IO (io), 89 IO (io), 90 IO (io), 91 IO (io), 92 IO (io), 93 IO (io), 94 IO (io), 95 IO (io), 96 IO (io), 97 IO (io), 99 IO (io), 100 IO (io), 101 IO (io), 102 IO (io), 103 IO (io), 104 IOPCL, IO (io), 106 IO (io), 107 IO (io), 108 IO (io), 109 IO (io), 110 IO (io), 111 IO (io), 112 IO (io), 113 IO (io), 116 IO (io), 117 IO (io), 118 IO (io), 119 IO (io), 120 IO (io), 121 IO (io), 122 IO (io), 123 IO (io), 124 IO (io), 125 IO (io), 126 IO (io), 127 IO (io), 128 IO (io), 133 IO (io), 134 IO (io), 135 IO (io), 136 IO (io), 137 IO (io), 138 IO (io), 139 IO (io), 140 IO (io), 141 IO (io), 142 IO (io), 143 IO (io), 144 IO (io), 147 IO (io), 149 IO (io), 150 IO (io), 151 IO (io), 152 IO (io), 153 IO (io), 154 IO (io), 155 IO (io), 156 IOCLK, IO (io), 158 IO (io), 159 IO (io), 160 IO (io), 161 IO (io), 162 IO (io), 163 IO (io), 165 IO (io), 166 IO (io), 167 IO (io), 168 IO (io), 169 IO (io), 170 IO (io), 171 IO (io), 172 IO (io), 173 IO (io), 174 IO (io), 175 IO (io), 176 IO (io), 177 IO (io), 178 IO (io), 179 IO (io), 180 CLKA/IO (io), 181 CLKB/IO (io), 186 PRA/IO (io), 187 IO (io), 188 IO (io), 189 IO (io), 190 IO (io), 191 IO (io), 192 IO (io), 193 IO (io), 194 IO (io), 195 IO (io), 196 IO (io), 197 IO (io), 198 IO (io), 199 IO (io), 200 IO (io), 202 IO (io), 203 IO (io), 204 IO (io), 205 IO (io), 206 IO (io), 207 IO (io), 208 DCLK/IO (io)
part B pins: 1 GND (power), 12 VCC (power), 25 VCC (power), 26 GND (power), 27 VCC (power), 28 GND (power), 40 VCC (power), 41 VCC (power), 52 GND (power), 60 VCC (power), 77 GND (power), 78 VCC (power), 79 GND (power), 80 VCC (power), 98 VCC (power), 105 GND (power), 114 VCC (power), 115 VCC (power), 129 GND (power), 130 VCC (power), 131 GND (power), 132 VCC (power), 145 VCC (power), 146 GND (power), 148 VCC (power), 157 GND (power), 164 VCC (power), 182 VCC (power), 183 GND (power), 184 VCC (power), 185 GND (power), 201 VCC (power)

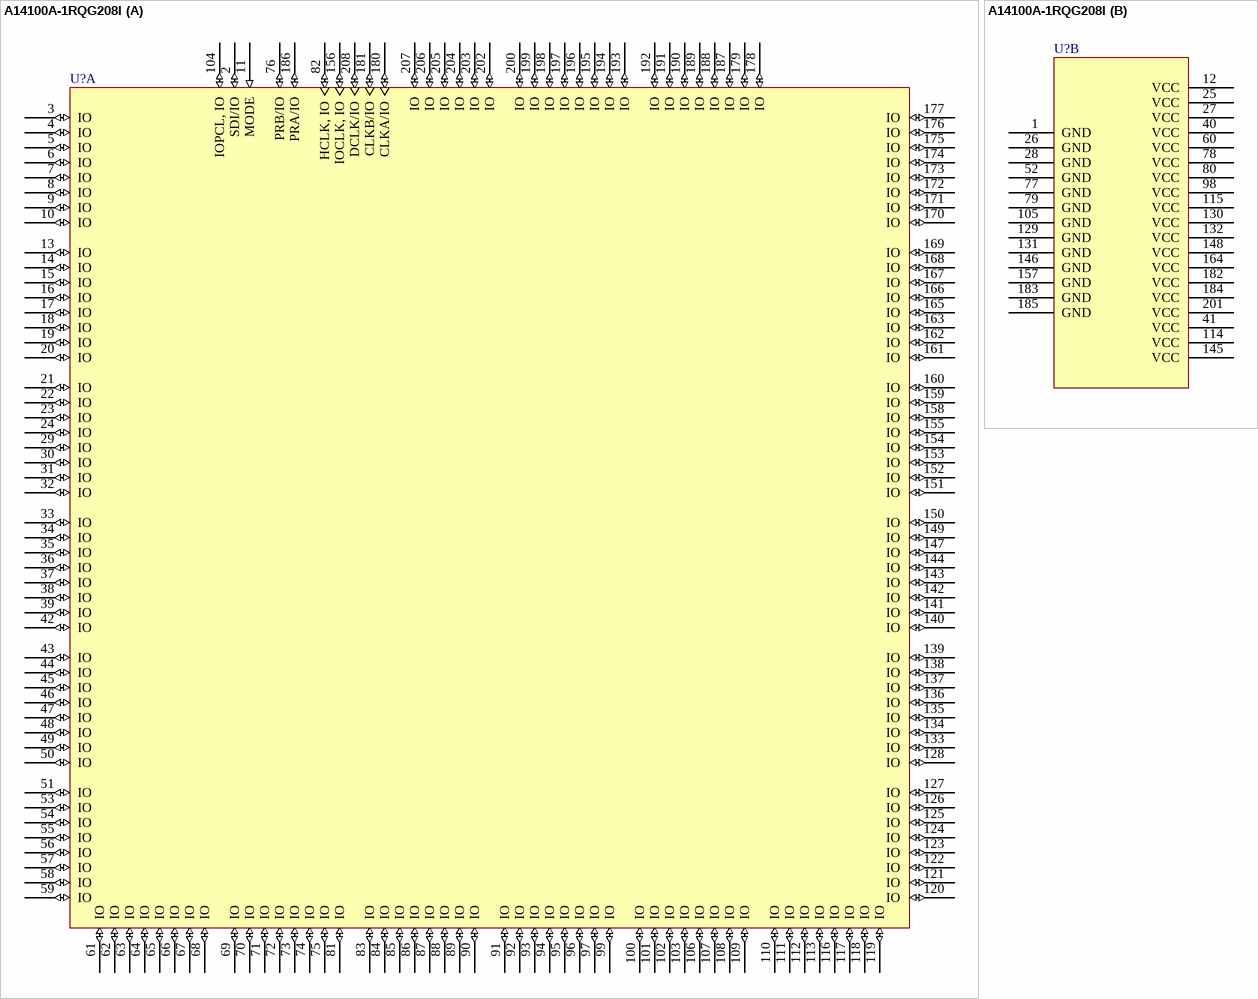
[diagram p166: symbol A14100A-1RQG208I]

## A14100A-1RQG208I
designator U?
ACT 3 Series 5V FPGA, 175 User I/Os, 208 pin RQFP, Speed Grade 1, Industrial Grade, Pb-Free; Published: 11-Dec-2009; DatasheetVersion: Sep-1997; PackageVersion: ver11.2, Nov-2009; PackageReference: RQ208; Publisher: Altium Limited; PackageDescription: 208-Pin Plastic Quad Flat Pack (RQ208); Code_JEDEC: MS-029-FA-1; ComponentLink1Description: ACT3 Datasheet; ComponentLink1URL: http://www.actel.com/documents/ACT3_DS.pdf; ComponentLink2Description: Package Mechanical Drawings; ComponentLink2URL: http://www.actel.com/documents/PckgMechDrwngs.pdf; ComponentLink3Description: Legacy FPGA Documents; ComponentLink3URL: http://www.actel.com/techdocs/ds/legacy.aspx
footprint RQ208_N (Shrink QFP, 208-Leads, Body 28x28mm, Pitch 0.5mm, IPC Medium Density)
footprint RQ208_L (Shrink QFP, 208-Leads, Body 28x28mm, Pitch 0.5mm, IPC High Density)
footprint RQ208_M (Shrink QFP, 208-Leads, Body 28x28mm, Pitch 0.5mm, IPC Low Density)
part A pins: 2 SDI/IO (io), 3 IO (io), 4 IO (io), 5 IO (io), 6 IO (io), 7 IO (io), 8 IO (io), 9 IO (io), 10 IO (io), 11 MODE (in), 13 IO (io), 14 IO (io), 15 IO (io), 16 IO (io), 17 IO (io), 18 IO (io), 19 IO (io), 20 IO (io), 21 IO (io), 22 IO (io), 23 IO (io), 24 IO (io), 29 IO (io), 30 IO (io), 31 IO (io), 32 IO (io), 33 IO (io), 34 IO (io), 35 IO (io), 36 IO (io), 37 IO (io), 38 IO (io), 39 IO (io), 42 IO (io), 43 IO (io), 44 IO (io), 45 IO (io), 46 IO (io), 47 IO (io), 48 IO (io), 49 IO (io), 50 IO (io), 51 IO (io), 53 IO (io), 54 IO (io), 55 IO (io), 56 IO (io), 57 IO (io), 58 IO (io), 59 IO (io), 61 IO (io), 62 IO (io), 63 IO (io), 64 IO (io), 65 IO (io), 66 IO (io), 67 IO (io), 68 IO (io), 69 IO (io), 70 IO (io), 71 IO (io), 72 IO (io), 73 IO (io), 74 IO (io), 75 IO (io), 76 PRB/IO (io), 81 IO (io), 82 HCLK, IO (io), 83 IO (io), 84 IO (io), 85 IO (io), 86 IO (io), 87 IO (io), 88 IO (io), 89 IO (io), 90 IO (io), 91 IO (io), 92 IO (io), 93 IO (io), 94 IO (io), 95 IO (io), 96 IO (io), 97 IO (io), 99 IO (io), 100 IO (io), 101 IO (io), 102 IO (io), 103 IO (io), 104 IOPCL, IO (io), 106 IO (io), 107 IO (io), 108 IO (io), 109 IO (io), 110 IO (io), 111 IO (io), 112 IO (io), 113 IO (io), 116 IO (io), 117 IO (io), 118 IO (io), 119 IO (io), 120 IO (io), 121 IO (io), 122 IO (io), 123 IO (io), 124 IO (io), 125 IO (io), 126 IO (io), 127 IO (io), 128 IO (io), 133 IO (io), 134 IO (io), 135 IO (io), 136 IO (io), 137 IO (io), 138 IO (io), 139 IO (io), 140 IO (io), 141 IO (io), 142 IO (io), 143 IO (io), 144 IO (io), 147 IO (io), 149 IO (io), 150 IO (io), 151 IO (io), 152 IO (io), 153 IO (io), 154 IO (io), 155 IO (io), 156 IOCLK, IO (io), 158 IO (io), 159 IO (io), 160 IO (io), 161 IO (io), 162 IO (io), 163 IO (io), 165 IO (io), 166 IO (io), 167 IO (io), 168 IO (io), 169 IO (io), 170 IO (io), 171 IO (io), 172 IO (io), 173 IO (io), 174 IO (io), 175 IO (io), 176 IO (io), 177 IO (io), 178 IO (io), 179 IO (io), 180 CLKA/IO (io), 181 CLKB/IO (io), 186 PRA/IO (io), 187 IO (io), 188 IO (io), 189 IO (io), 190 IO (io), 191 IO (io), 192 IO (io), 193 IO (io), 194 IO (io), 195 IO (io), 196 IO (io), 197 IO (io), 198 IO (io), 199 IO (io), 200 IO (io), 202 IO (io), 203 IO (io), 204 IO (io), 205 IO (io), 206 IO (io), 207 IO (io), 208 DCLK/IO (io)
part B pins: 1 GND (power), 12 VCC (power), 25 VCC (power), 26 GND (power), 27 VCC (power), 28 GND (power), 40 VCC (power), 41 VCC (power), 52 GND (power), 60 VCC (power), 77 GND (power), 78 VCC (power), 79 GND (power), 80 VCC (power), 98 VCC (power), 105 GND (power), 114 VCC (power), 115 VCC (power), 129 GND (power), 130 VCC (power), 131 GND (power), 132 VCC (power), 145 VCC (power), 146 GND (power), 148 VCC (power), 157 GND (power), 164 VCC (power), 182 VCC (power), 183 GND (power), 184 VCC (power), 185 GND (power), 201 VCC (power)

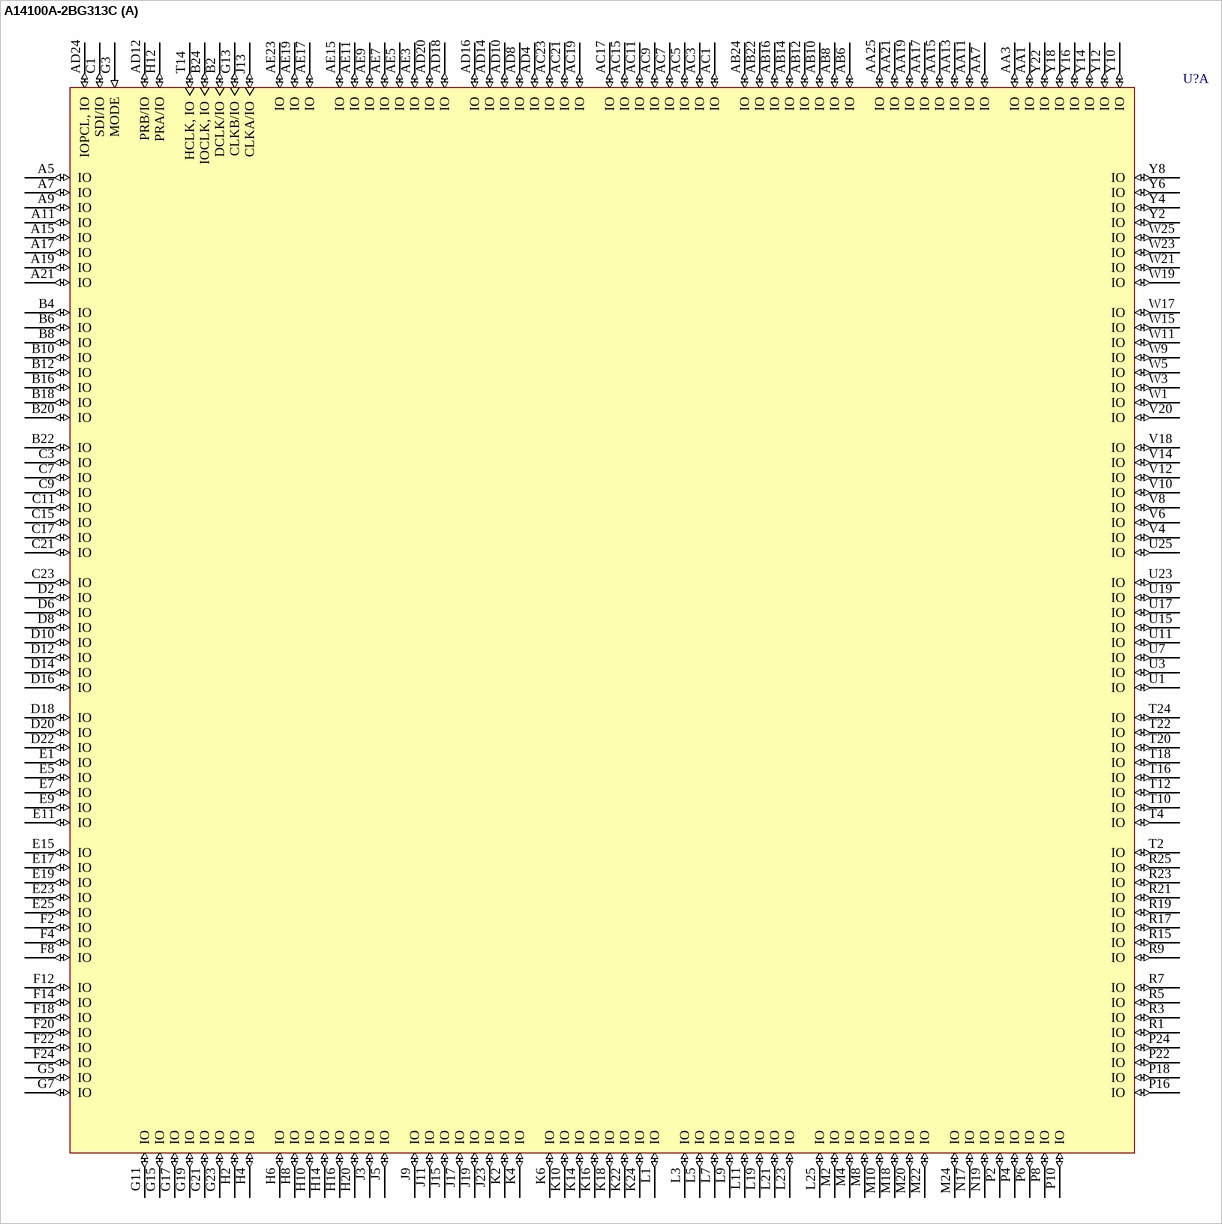
[diagram p167: symbol A14100A-2BG313C]

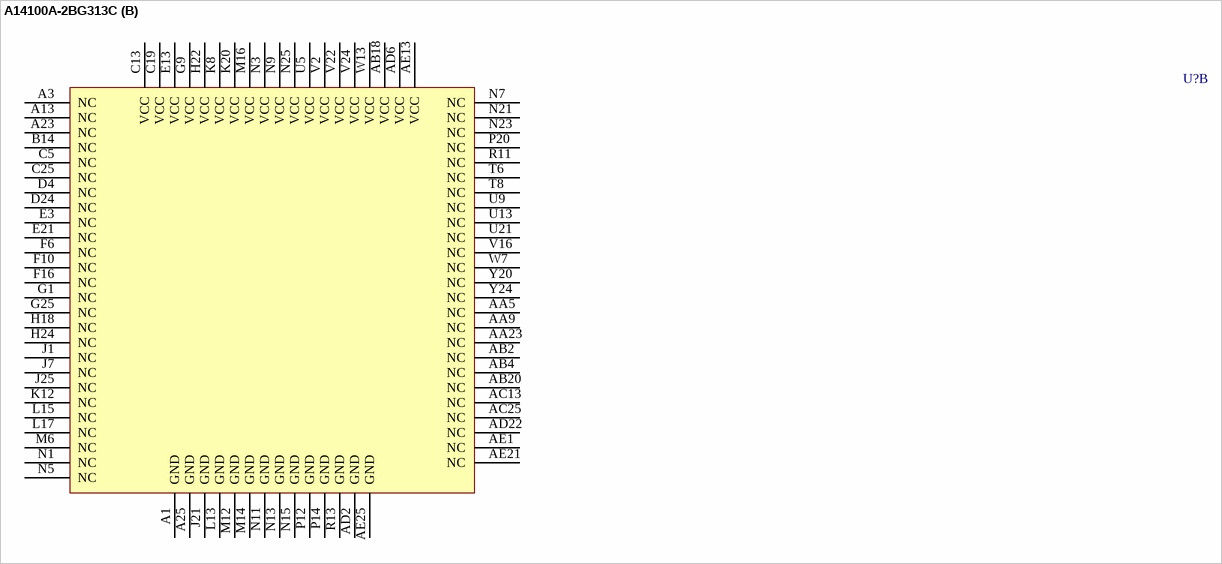
[diagram p168: symbol A14100A-2BG313C]

## A14100A-2BG313C
designator U?
ACT 3 Series 5V FPGA, 228 User I/Os, 313 pin PBGA, Speed Grade 2, Commercial Grade; Published: 24-Nov-2000; LatestRevisionDate: 13-Apr-2006; LatestRevisionNote: IPC-7351 Footprint Added.; DatasheetVersion: Sep-1997; PackageVersion: ver11.2, Nov-2009; PackageReference: BG313; Publisher: Altium Limited; PackageDescription: 313-Ball Staggered Plastic Ball Grid Array (BG313); Code_JEDEC: MS-034; ComponentLink1Description: ACT3 Datasheet; ComponentLink1URL: http://www.actel.com/documents/ACT3_DS.pdf; ComponentLink2Description: Package Mechanical Drawings; ComponentLink2URL: http://www.actel.com/documents/PckgMechDrwngs.pdf; ComponentLink3Description: Legacy FPGA Documents; ComponentLink3URL: http://www.actel.com/techdocs/ds/legacy.aspx
footprint BG313 (BGA, Staggered, 313-Leads, Body 35x35mm, Pitch 1.27mm)
part A pins: A5 IO (io), A7 IO (io), A9 IO (io), A11 IO (io), A15 IO (io), A17 IO (io), A19 IO (io), A21 IO (io), AA1 IO (io), AA3 IO (io), AA7 IO (io), AA11 IO (io), AA13 IO (io), AA15 IO (io), AA17 IO (io), AA19 IO (io), AA21 IO (io), AA25 IO (io), AB6 IO (io), AB8 IO (io), AB10 IO (io), AB12 IO (io), AB14 IO (io), AB16 IO (io), AB22 IO (io), AB24 IO (io), AC1 IO (io), AC3 IO (io), AC5 IO (io), AC7 IO (io), AC9 IO (io), AC11 IO (io), AC15 IO (io), AC17 IO (io), AC19 IO (io), AC21 IO (io), AC23 IO (io), AD4 IO (io), AD8 IO (io), AD10 IO (io), AD12 PRB/IO (io), AD14 IO (io), AD16 IO (io), AD18 IO (io), AD20 IO (io), AD24 IOPCL, IO (io), AE3 IO (io), AE5 IO (io), AE7 IO (io), AE9 IO (io), AE11 IO (io), AE15 IO (io), AE17 IO (io), AE19 IO (io), AE23 IO (io), B2 DCLK/IO (io), B4 IO (io), B6 IO (io), B8 IO (io), B10 IO (io), B12 IO (io), B16 IO (io), B18 IO (io), B20 IO (io), B22 IO (io), B24 IOCLK, IO (io), C1 SDI/IO (io), C3 IO (io), C7 IO (io), C9 IO (io), C11 IO (io), C15 IO (io), C17 IO (io), C21 IO (io), C23 IO (io), D2 IO (io), D6 IO (io), D8 IO (io), D10 IO (io), D12 IO (io), D14 IO (io), D16 IO (io), D18 IO (io), D20 IO (io), D22 IO (io), E1 IO (io), E5 IO (io), E7 IO (io), E9 IO (io), E11 IO (io), E15 IO (io), E17 IO (io), E19 IO (io), E23 IO (io), E25 IO (io), F2 IO (io), F4 IO (io), F8 IO (io), F12 IO (io), F14 IO (io), F18 IO (io), F20 IO (io), F22 IO (io), F24 IO (io), G3 MODE (in), G5 IO (io), G7 IO (io), G11 IO (io), G13 CLKB/IO (io), G15 IO (io), G17 IO (io), G19 IO (io), G21 IO (io), G23 IO (io), H2 IO (io), H4 IO (io), H6 IO (io), H8 IO (io), H10 IO (io), H12 PRA/IO (io), H14 IO (io), H16 IO (io), H20 IO (io), J3 IO (io), J5 IO (io), J9 IO (io), J11 IO (io), J13 CLKA/IO (io), J15 IO (io), J17 IO (io), J19 IO (io), J23 IO (io), K2 IO (io), K4 IO (io), K6 IO (io), K10 IO (io), K14 IO (io), K16 IO (io), K18 IO (io), K22 IO (io), K24 IO (io), L1 IO (io), L3 IO (io), L5 IO (io), L7 IO (io), L9 IO (io), L11 IO (io), L19 IO (io), L21 IO (io), L23 IO (io), L25 IO (io), M2 IO (io), M4 IO (io), M8 IO (io), M10 IO (io), M18 IO (io), M20 IO (io), M22 IO (io), M24 IO (io), N17 IO (io), N19 IO (io), P2 IO (io), P4 IO (io), P6 IO (io), P8 IO (io), P10 IO (io), P16 IO (io), P18 IO (io), P22 IO (io), P24 IO (io), R1 IO (io), R3 IO (io), R5 IO (io), R7 IO (io), R9 IO (io), R15 IO (io), R17 IO (io), R19 IO (io), R21 IO (io), R23 IO (io), R25 IO (io), T2 IO (io), T4 IO (io), T10 IO (io), T12 IO (io), T14 HCLK, IO (io), T16 IO (io), T18 IO (io), T20 IO (io), T22 IO (io), T24 IO (io), U1 IO (io), U3 IO (io), U7 IO (io), U11 IO (io), U15 IO (io), U17 IO (io), U19 IO (io), U23 IO (io), U25 IO (io), V4 IO (io), V6 IO (io), V8 IO (io), V10 IO (io), V12 IO (io), V14 IO (io), V18 IO (io), V20 IO (io), W1 IO (io), W3 IO (io), W5 IO (io), W9 IO (io), W11 IO (io), W15 IO (io), W17 IO (io), W19 IO (io), W21 IO (io), W23 IO (io), W25 IO (io), Y2 IO (io), Y4 IO (io), Y6 IO (io), Y8 IO (io), Y10 IO (io), Y12 IO (io), Y14 IO (io), Y16 IO (io), Y18 IO (io), Y22 IO (io)
part B pins: A1 GND (power), A3 NC, A13 NC, A23 NC, A25 GND (power), AA5 NC, AA9 NC, AA23 NC, AB2 NC, AB4 NC, AB18 VCC (power), AB20 NC, AC13 NC, AC25 NC, AD2 GND (power), AD6 VCC (power), AD22 NC, AE1 NC, AE13 VCC (power), AE21 NC, AE25 GND (power), B14 NC, C5 NC, C13 VCC (power), C19 VCC (power), C25 NC, D4 NC, D24 NC, E3 NC, E13 VCC (power), E21 NC, F6 NC, F10 NC, F16 NC, G1 NC, G9 VCC (power), G25 NC, H18 NC, H22 VCC (power), H24 NC, J1 NC, J7 NC, J21 GND (power), J25 NC, K8 VCC (power), K12 NC, K20 VCC (power), L13 GND (power), L15 NC, L17 NC, M6 NC, M12 GND (power), M14 GND (power), M16 VCC (power), N1 NC, N3 VCC (power), N5 NC, N7 NC, N9 VCC (power), N11 GND (power), N13 GND (power), N15 GND (power), N21 NC, N23 NC, N25 VCC (power), P12 GND (power), P14 GND (power), P20 NC, R11 NC, R13 GND (power), T6 NC, T8 NC, U5 VCC (power), U9 NC, U13 NC, U21 NC, V2 VCC (power), V16 NC, V22 VCC (power), V24 VCC (power), W7 NC, W13 VCC (power), Y20 NC, Y24 NC

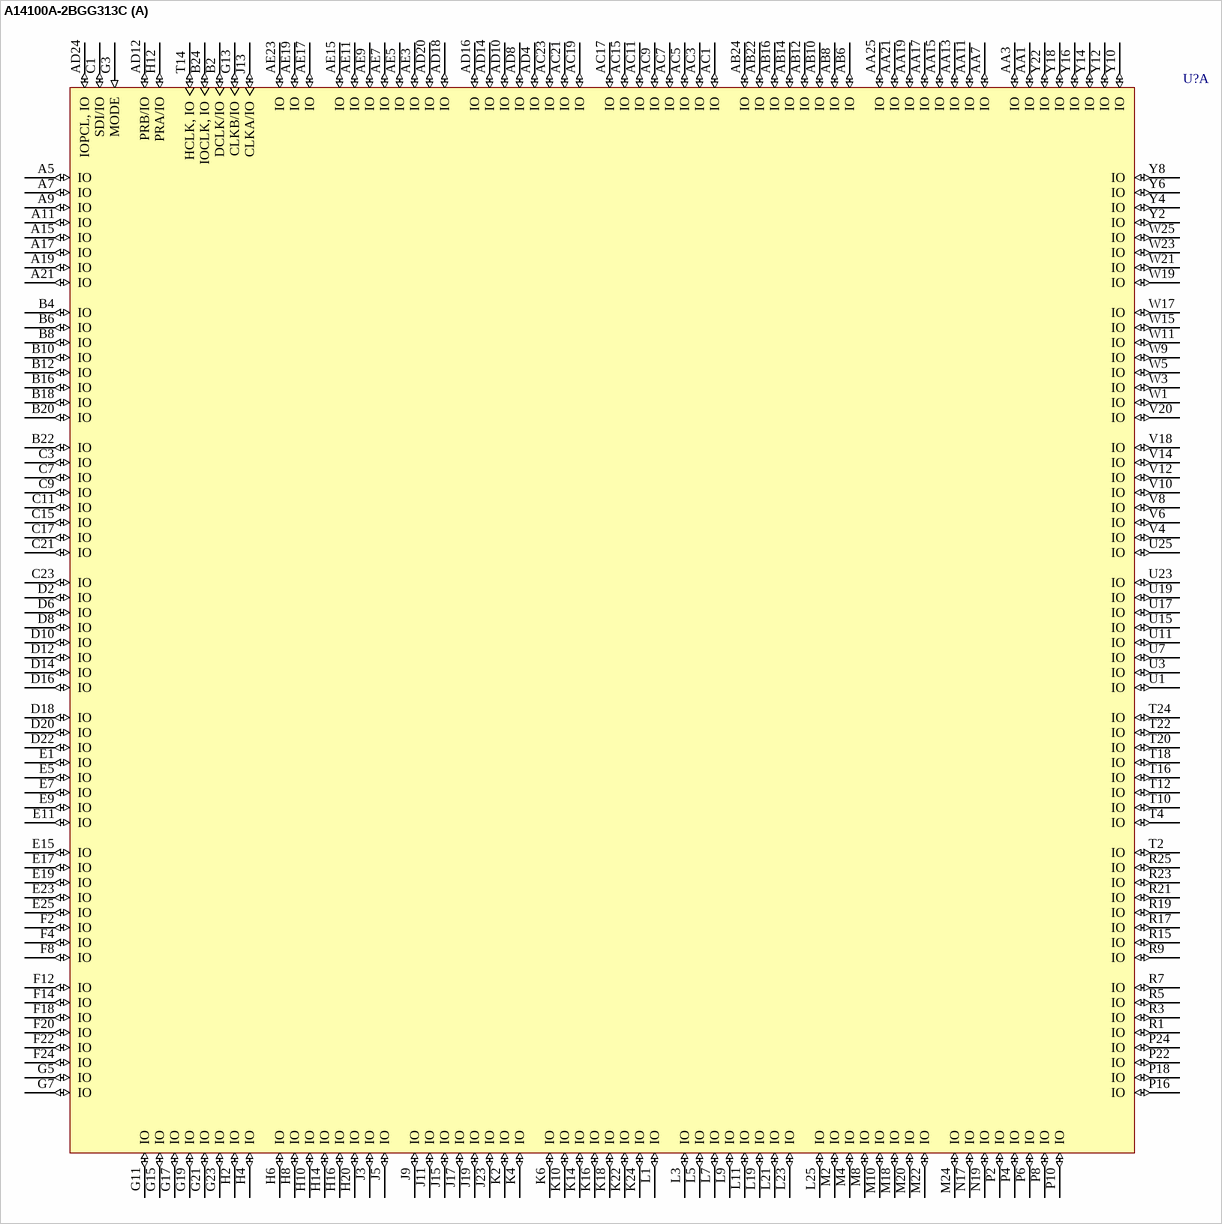
[diagram p169: symbol A14100A-2BGG313C]

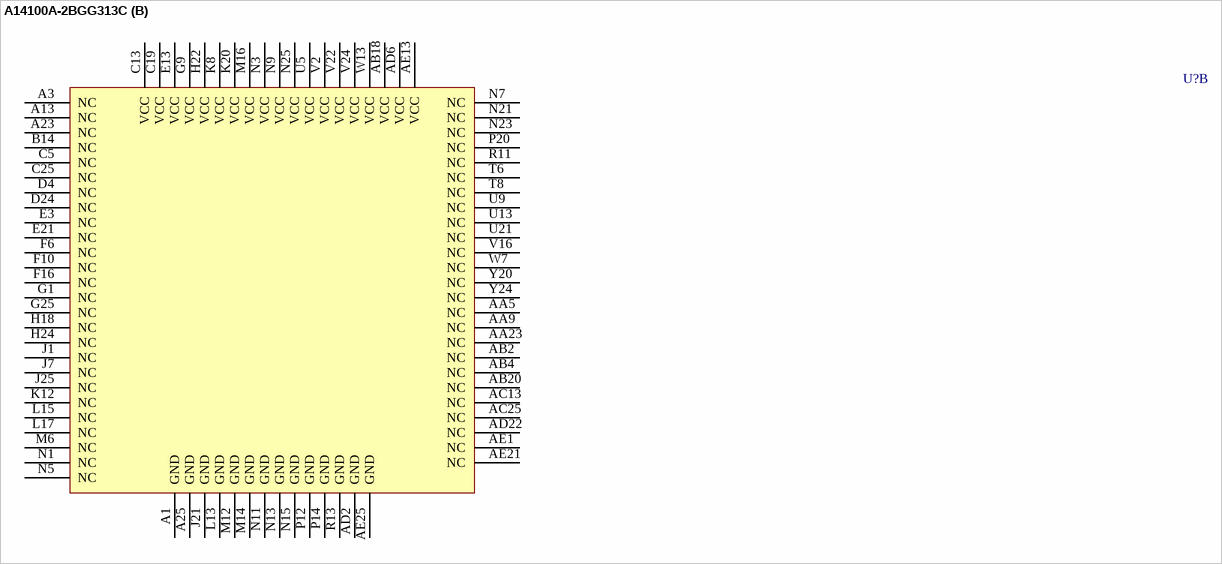
[diagram p170: symbol A14100A-2BGG313C]

## A14100A-2BGG313C
designator U?
ACT 3 Series 5V FPGA, 228 User I/Os, 313 pin PBGA, Speed Grade 2, Commercial Grade, Pb-Free; Published: 11-Dec-2009; DatasheetVersion: Sep-1997; PackageVersion: ver11.2, Nov-2009; PackageReference: BG313; Publisher: Altium Limited; PackageDescription: 313-Ball Staggered Plastic Ball Grid Array (BG313); Code_JEDEC: MS-034; ComponentLink1Description: ACT3 Datasheet; ComponentLink1URL: http://www.actel.com/documents/ACT3_DS.pdf; ComponentLink2Description: Package Mechanical Drawings; ComponentLink2URL: http://www.actel.com/documents/PckgMechDrwngs.pdf; ComponentLink3Description: Legacy FPGA Documents; ComponentLink3URL: http://www.actel.com/techdocs/ds/legacy.aspx
footprint BG313 (BGA, Staggered, 313-Leads, Body 35x35mm, Pitch 1.27mm)
part A pins: A5 IO (io), A7 IO (io), A9 IO (io), A11 IO (io), A15 IO (io), A17 IO (io), A19 IO (io), A21 IO (io), AA1 IO (io), AA3 IO (io), AA7 IO (io), AA11 IO (io), AA13 IO (io), AA15 IO (io), AA17 IO (io), AA19 IO (io), AA21 IO (io), AA25 IO (io), AB6 IO (io), AB8 IO (io), AB10 IO (io), AB12 IO (io), AB14 IO (io), AB16 IO (io), AB22 IO (io), AB24 IO (io), AC1 IO (io), AC3 IO (io), AC5 IO (io), AC7 IO (io), AC9 IO (io), AC11 IO (io), AC15 IO (io), AC17 IO (io), AC19 IO (io), AC21 IO (io), AC23 IO (io), AD4 IO (io), AD8 IO (io), AD10 IO (io), AD12 PRB/IO (io), AD14 IO (io), AD16 IO (io), AD18 IO (io), AD20 IO (io), AD24 IOPCL, IO (io), AE3 IO (io), AE5 IO (io), AE7 IO (io), AE9 IO (io), AE11 IO (io), AE15 IO (io), AE17 IO (io), AE19 IO (io), AE23 IO (io), B2 DCLK/IO (io), B4 IO (io), B6 IO (io), B8 IO (io), B10 IO (io), B12 IO (io), B16 IO (io), B18 IO (io), B20 IO (io), B22 IO (io), B24 IOCLK, IO (io), C1 SDI/IO (io), C3 IO (io), C7 IO (io), C9 IO (io), C11 IO (io), C15 IO (io), C17 IO (io), C21 IO (io), C23 IO (io), D2 IO (io), D6 IO (io), D8 IO (io), D10 IO (io), D12 IO (io), D14 IO (io), D16 IO (io), D18 IO (io), D20 IO (io), D22 IO (io), E1 IO (io), E5 IO (io), E7 IO (io), E9 IO (io), E11 IO (io), E15 IO (io), E17 IO (io), E19 IO (io), E23 IO (io), E25 IO (io), F2 IO (io), F4 IO (io), F8 IO (io), F12 IO (io), F14 IO (io), F18 IO (io), F20 IO (io), F22 IO (io), F24 IO (io), G3 MODE (in), G5 IO (io), G7 IO (io), G11 IO (io), G13 CLKB/IO (io), G15 IO (io), G17 IO (io), G19 IO (io), G21 IO (io), G23 IO (io), H2 IO (io), H4 IO (io), H6 IO (io), H8 IO (io), H10 IO (io), H12 PRA/IO (io), H14 IO (io), H16 IO (io), H20 IO (io), J3 IO (io), J5 IO (io), J9 IO (io), J11 IO (io), J13 CLKA/IO (io), J15 IO (io), J17 IO (io), J19 IO (io), J23 IO (io), K2 IO (io), K4 IO (io), K6 IO (io), K10 IO (io), K14 IO (io), K16 IO (io), K18 IO (io), K22 IO (io), K24 IO (io), L1 IO (io), L3 IO (io), L5 IO (io), L7 IO (io), L9 IO (io), L11 IO (io), L19 IO (io), L21 IO (io), L23 IO (io), L25 IO (io), M2 IO (io), M4 IO (io), M8 IO (io), M10 IO (io), M18 IO (io), M20 IO (io), M22 IO (io), M24 IO (io), N17 IO (io), N19 IO (io), P2 IO (io), P4 IO (io), P6 IO (io), P8 IO (io), P10 IO (io), P16 IO (io), P18 IO (io), P22 IO (io), P24 IO (io), R1 IO (io), R3 IO (io), R5 IO (io), R7 IO (io), R9 IO (io), R15 IO (io), R17 IO (io), R19 IO (io), R21 IO (io), R23 IO (io), R25 IO (io), T2 IO (io), T4 IO (io), T10 IO (io), T12 IO (io), T14 HCLK, IO (io), T16 IO (io), T18 IO (io), T20 IO (io), T22 IO (io), T24 IO (io), U1 IO (io), U3 IO (io), U7 IO (io), U11 IO (io), U15 IO (io), U17 IO (io), U19 IO (io), U23 IO (io), U25 IO (io), V4 IO (io), V6 IO (io), V8 IO (io), V10 IO (io), V12 IO (io), V14 IO (io), V18 IO (io), V20 IO (io), W1 IO (io), W3 IO (io), W5 IO (io), W9 IO (io), W11 IO (io), W15 IO (io), W17 IO (io), W19 IO (io), W21 IO (io), W23 IO (io), W25 IO (io), Y2 IO (io), Y4 IO (io), Y6 IO (io), Y8 IO (io), Y10 IO (io), Y12 IO (io), Y14 IO (io), Y16 IO (io), Y18 IO (io), Y22 IO (io)
part B pins: A1 GND (power), A3 NC, A13 NC, A23 NC, A25 GND (power), AA5 NC, AA9 NC, AA23 NC, AB2 NC, AB4 NC, AB18 VCC (power), AB20 NC, AC13 NC, AC25 NC, AD2 GND (power), AD6 VCC (power), AD22 NC, AE1 NC, AE13 VCC (power), AE21 NC, AE25 GND (power), B14 NC, C5 NC, C13 VCC (power), C19 VCC (power), C25 NC, D4 NC, D24 NC, E3 NC, E13 VCC (power), E21 NC, F6 NC, F10 NC, F16 NC, G1 NC, G9 VCC (power), G25 NC, H18 NC, H22 VCC (power), H24 NC, J1 NC, J7 NC, J21 GND (power), J25 NC, K8 VCC (power), K12 NC, K20 VCC (power), L13 GND (power), L15 NC, L17 NC, M6 NC, M12 GND (power), M14 GND (power), M16 VCC (power), N1 NC, N3 VCC (power), N5 NC, N7 NC, N9 VCC (power), N11 GND (power), N13 GND (power), N15 GND (power), N21 NC, N23 NC, N25 VCC (power), P12 GND (power), P14 GND (power), P20 NC, R11 NC, R13 GND (power), T6 NC, T8 NC, U5 VCC (power), U9 NC, U13 NC, U21 NC, V2 VCC (power), V16 NC, V22 VCC (power), V24 VCC (power), W7 NC, W13 VCC (power), Y20 NC, Y24 NC

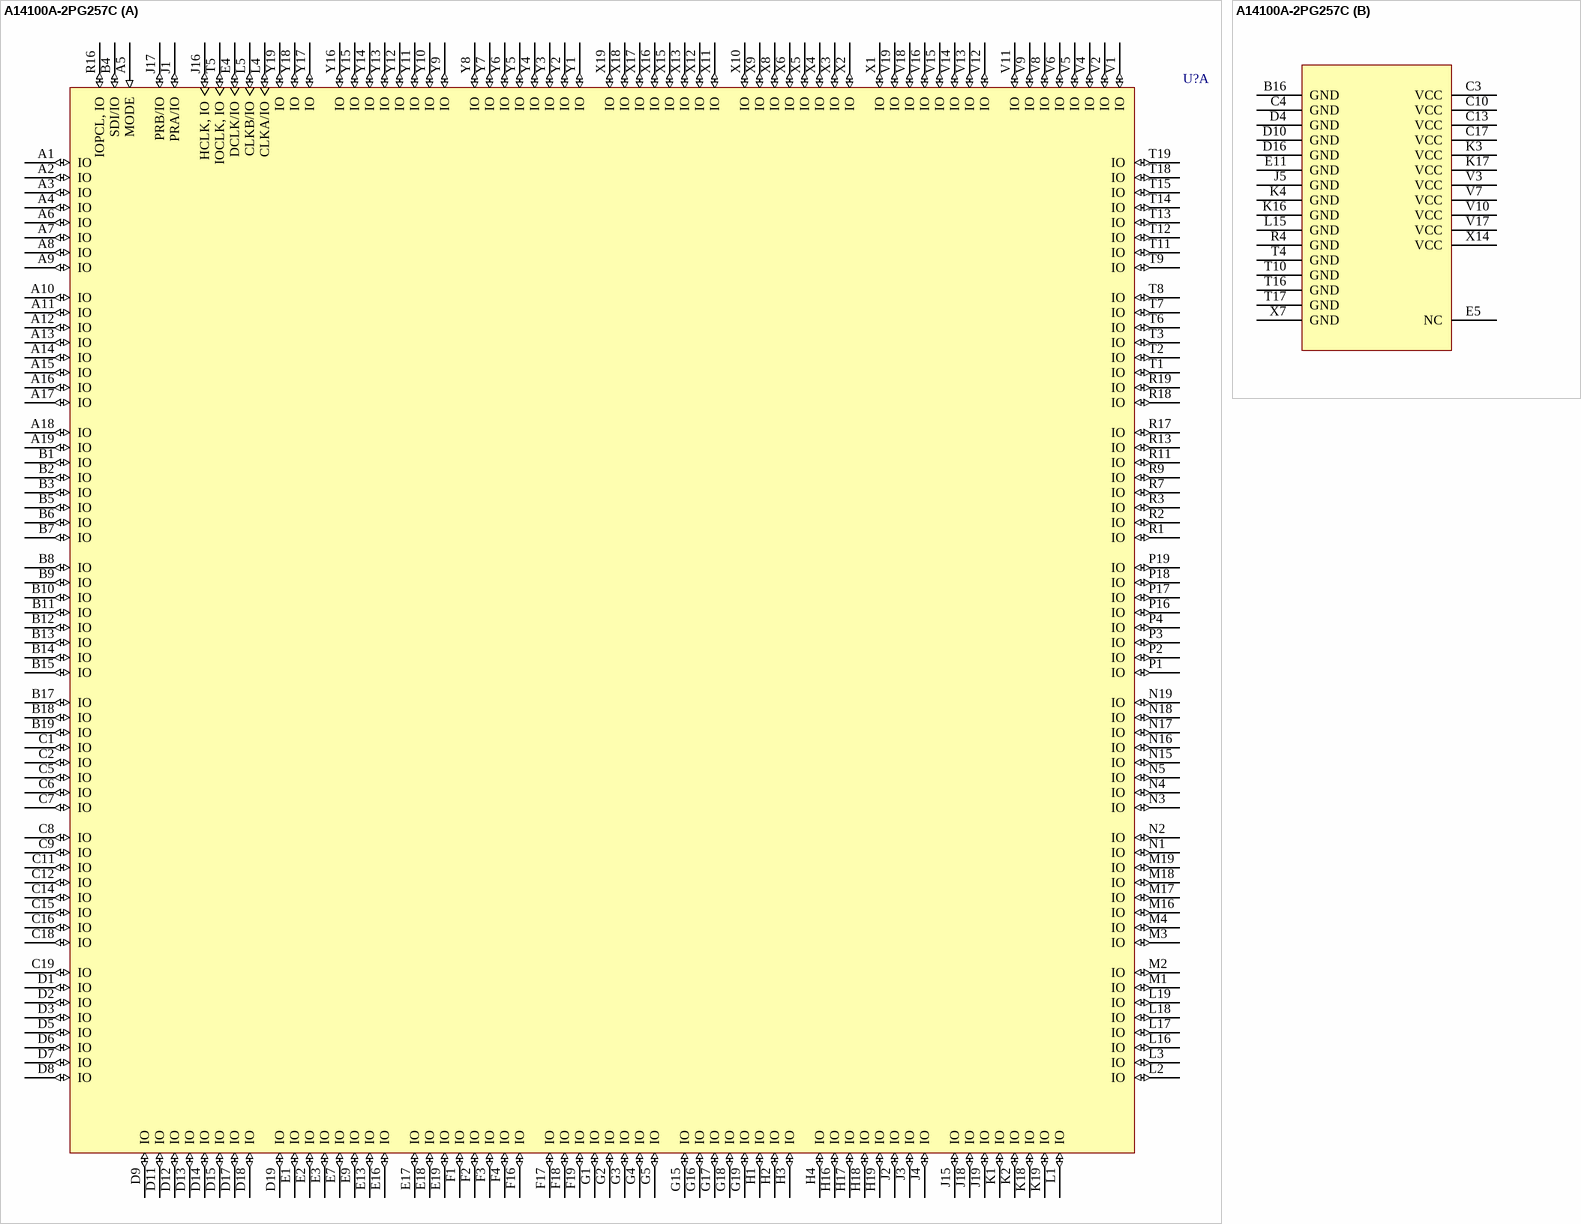
[diagram p171: symbol A14100A-2PG257C]

## A14100A-2PG257C
designator U?
ACT 3 Series 5V FPGA, 228 User I/Os, 257 pin CPGA, Speed Grade 2, Commercial Grade; Published: 24-Nov-2000; LatestRevisionDate: 04-Mar-2005; LatestRevisionNote: Stylized 3D Model Added.; DatasheetVersion: Sep-1997; PackageVersion: ver11.2, Nov-2009; PackageReference: PG257; Publisher: Altium Limited; PackageDescription: 257-Pin Ceramic Pin Grid Array (PG257); ComponentLink1Description: ACT3 Datasheet; ComponentLink1URL: http://www.actel.com/documents/ACT3_DS.pdf; ComponentLink2Description: Package Mechanical Drawings; ComponentLink2URL: http://www.actel.com/documents/PckgMechDrwngs.pdf; ComponentLink3Description: Legacy FPGA Documents; ComponentLink3URL: http://www.actel.com/techdocs/ds/legacy.aspx
footprint PG257 (PGA, 257-Leads, Body 50x50mm, Pitch 2.54mm)
part A pins: A1 IO (io), A2 IO (io), A3 IO (io), A4 IO (io), A5 MODE (in), A6 IO (io), A7 IO (io), A8 IO (io), A9 IO (io), A10 IO (io), A11 IO (io), A12 IO (io), A13 IO (io), A14 IO (io), A15 IO (io), A16 IO (io), A17 IO (io), A18 IO (io), A19 IO (io), B1 IO (io), B2 IO (io), B3 IO (io), B4 SDI/IO (io), B5 IO (io), B6 IO (io), B7 IO (io), B8 IO (io), B9 IO (io), B10 IO (io), B11 IO (io), B12 IO (io), B13 IO (io), B14 IO (io), B15 IO (io), B17 IO (io), B18 IO (io), B19 IO (io), C1 IO (io), C2 IO (io), C5 IO (io), C6 IO (io), C7 IO (io), C8 IO (io), C9 IO (io), C11 IO (io), C12 IO (io), C14 IO (io), C15 IO (io), C16 IO (io), C18 IO (io), C19 IO (io), D1 IO (io), D2 IO (io), D3 IO (io), D5 IO (io), D6 IO (io), D7 IO (io), D8 IO (io), D9 IO (io), D11 IO (io), D12 IO (io), D13 IO (io), D14 IO (io), D15 IO (io), D17 IO (io), D18 IO (io), D19 IO (io), E1 IO (io), E2 IO (io), E3 IO (io), E4 DCLK/IO (io), E7 IO (io), E9 IO (io), E13 IO (io), E16 IO (io), E17 IO (io), E18 IO (io), E19 IO (io), F1 IO (io), F2 IO (io), F3 IO (io), F4 IO (io), F16 IO (io), F17 IO (io), F18 IO (io), F19 IO (io), G1 IO (io), G2 IO (io), G3 IO (io), G4 IO (io), G5 IO (io), G15 IO (io), G16 IO (io), G17 IO (io), G18 IO (io), G19 IO (io), H1 IO (io), H2 IO (io), H3 IO (io), H4 IO (io), H16 IO (io), H17 IO (io), H18 IO (io), H19 IO (io), J1 PRA/IO (io), J2 IO (io), J3 IO (io), J4 IO (io), J15 IO (io), J16 HCLK, IO (io), J17 PRB/IO (io), J18 IO (io), J19 IO (io), K1 IO (io), K2 IO (io), K18 IO (io), K19 IO (io), L1 IO (io), L2 IO (io), L3 IO (io), L4 CLKA/IO (io), L5 CLKB/IO (io), L16 IO (io), L17 IO (io), L18 IO (io), L19 IO (io), M1 IO (io), M2 IO (io), M3 IO (io), M4 IO (io), M16 IO (io), M17 IO (io), M18 IO (io), M19 IO (io), N1 IO (io), N2 IO (io), N3 IO (io), N4 IO (io), N5 IO (io), N15 IO (io), N16 IO (io), N17 IO (io), N18 IO (io), N19 IO (io), P1 IO (io), P2 IO (io), P3 IO (io), P4 IO (io), P16 IO (io), P17 IO (io), P18 IO (io), P19 IO (io), R1 IO (io), R2 IO (io), R3 IO (io), R7 IO (io), R9 IO (io), R11 IO (io), R13 IO (io), R16 IOPCL, IO (io), R17 IO (io), R18 IO (io), R19 IO (io), T1 IO (io), T2 IO (io), T3 IO (io), T5 IOCLK, IO (io), T6 IO (io), T7 IO (io), T8 IO (io), T9 IO (io), T11 IO (io), T12 IO (io), T13 IO (io), T14 IO (io), T15 IO (io), T18 IO (io), T19 IO (io), V1 IO (io), V2 IO (io), V4 IO (io), V5 IO (io), V6 IO (io), V8 IO (io), V9 IO (io), V11 IO (io), V12 IO (io), V13 IO (io), V14 IO (io), V15 IO (io), V16 IO (io), V18 IO (io), V19 IO (io), X1 IO (io), X2 IO (io), X3 IO (io), X4 IO (io), X5 IO (io), X6 IO (io), X8 IO (io), X9 IO (io), X10 IO (io), X11 IO (io), X12 IO (io), X13 IO (io), X15 IO (io), X16 IO (io), X17 IO (io), X18 IO (io), X19 IO (io), Y1 IO (io), Y2 IO (io), Y3 IO (io), Y4 IO (io), Y5 IO (io), Y6 IO (io), Y7 IO (io), Y8 IO (io), Y9 IO (io), Y10 IO (io), Y11 IO (io), Y12 IO (io), Y13 IO (io), Y14 IO (io), Y15 IO (io), Y16 IO (io), Y17 IO (io), Y18 IO (io), Y19 IO (io)
part B pins: B16 GND (power), C3 VCC (power), C4 GND (power), C10 VCC (power), C13 VCC (power), C17 VCC (power), D4 GND (power), D10 GND (power), D16 GND (power), E5 NC, E11 GND (power), J5 GND (power), K3 VCC (power), K4 GND (power), K16 GND (power), K17 VCC (power), L15 GND (power), R4 GND (power), T4 GND (power), T10 GND (power), T16 GND (power), T17 GND (power), V3 VCC (power), V7 VCC (power), V10 VCC (power), V17 VCC (power), X7 GND (power), X14 VCC (power)

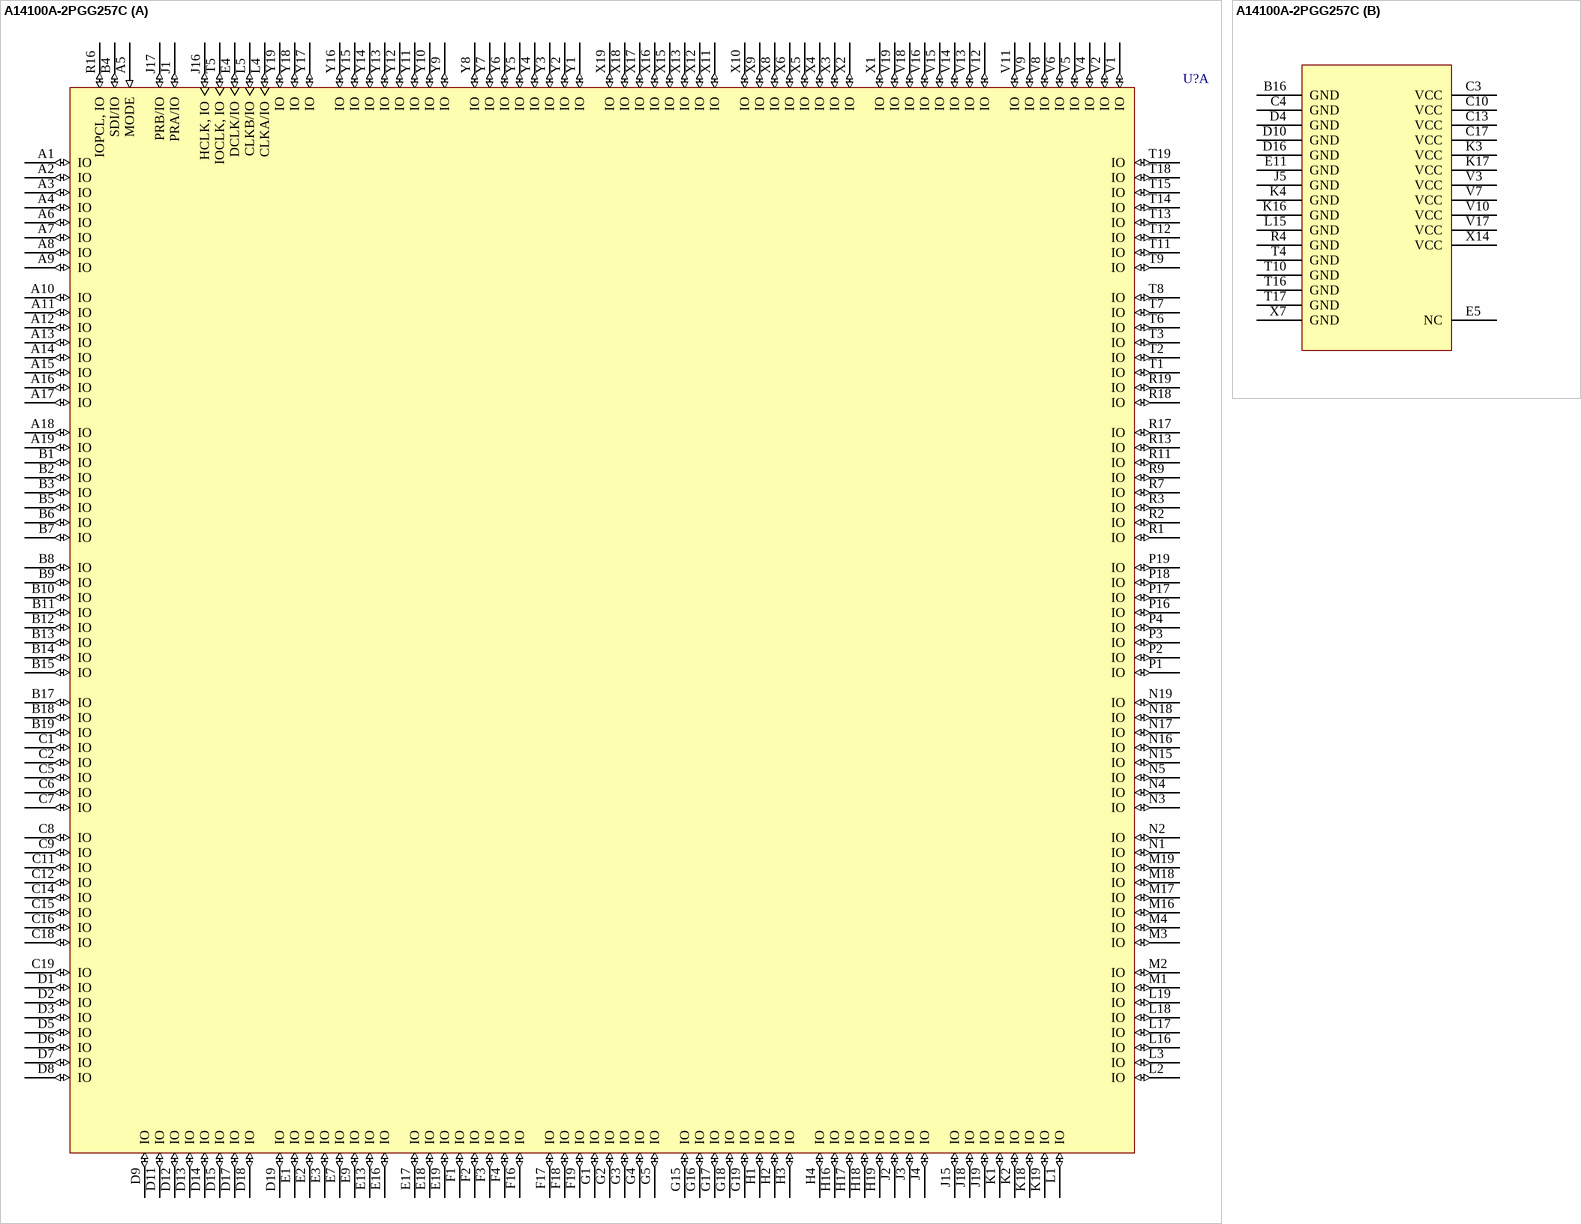
[diagram p172: symbol A14100A-2PGG257C]